# Altium schematic symbol library PROPIASchlib.SCHLIB: 224 symbols (part 1 of 2)
Pins are listed as number, name and electrical type; pins without a type are passive.

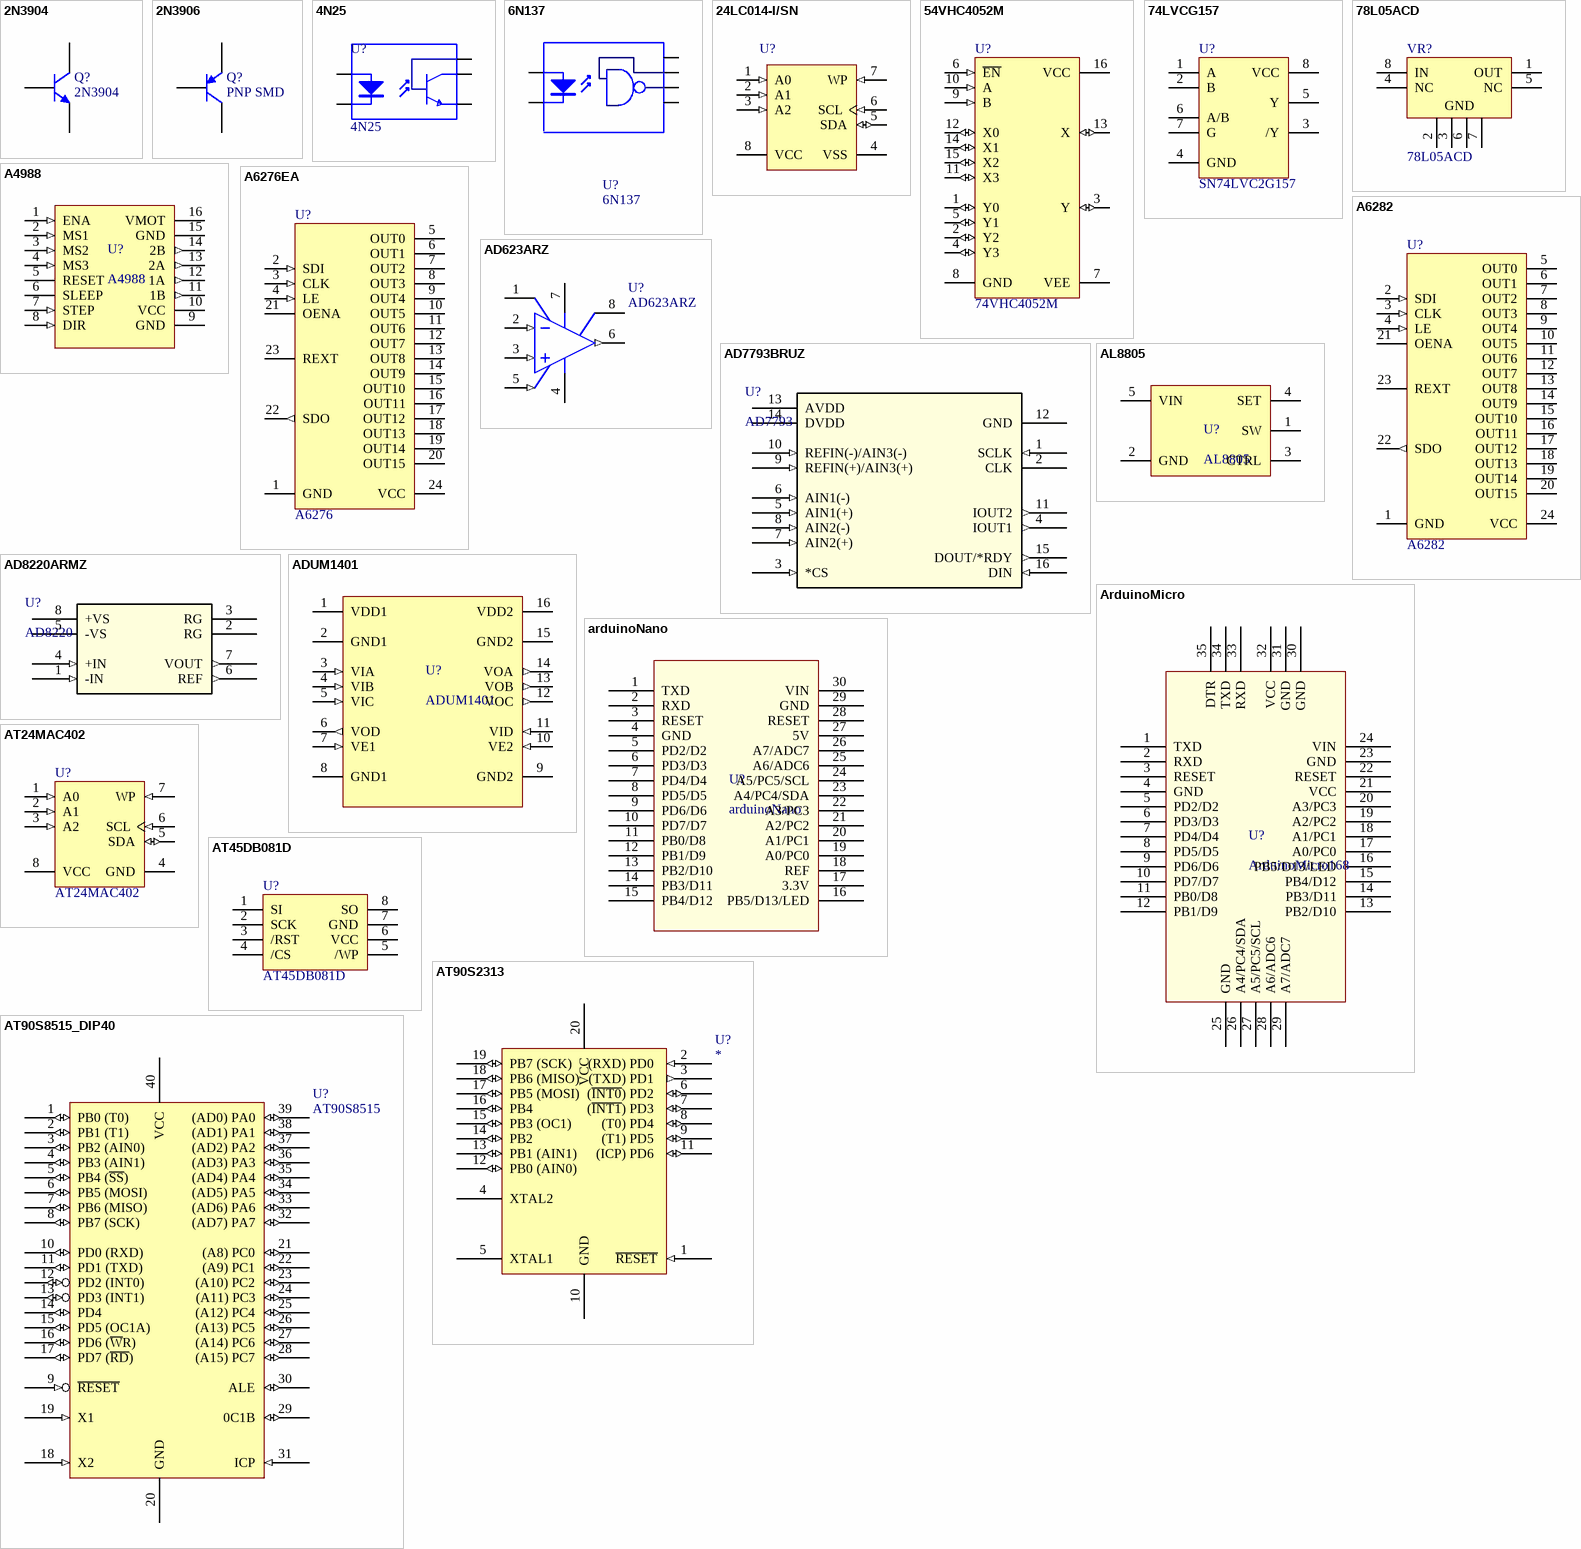
[diagram p0: symbols 2N3904 to AT90S8515_DIP40]

## 2N3904
designator Q?
NPN 45V 0.1 A SMD; Part: MMBT3904-7-F; Proveedor: Digikey; Published: 8-Jun-2000; LatestRevisionDate: 15-Jan-2003; LatestRevisionNote: PCB Footprint 'BCY-W3/D4.7' replaced; DatasheetDocument: 1997; PackageDocument: Sep-1998; PackageReference: TO-92A; Publisher: Altium Limited; Code_JEDEC: TO-92A; ComponentLink1Description: Manufacturer Link; ComponentLink1URL: http://www.fairchildsemi.com/; ComponentLink2Description: Datasheet; ComponentLink2URL: http://www.fairchildsemi.com/ds/2N%2F2N3904.pdf; Price: 0.12
simulation model 2N3904 (NPN)
signal-integrity model 2N3904
footprint NPN-PNP (Transistor)
pins: 1 E, 2 B, 3 C

## 2N3906
designator Q?, comment PNP SMD
Part: MMBT3906-FDICT-ND; Proveedor: Digikey; Published: 8-Jun-2000; LatestRevisionDate: 15-Jan-2003; LatestRevisionNote: PCB Footprint 'BCY-W3/D4.7' replaced; DatasheetDocument: 1997; PackageDocument: Sep-1998; PackageReference: TO-92A; Publisher: Altium Limited; Code_JEDEC: TO-92A; ComponentLink1Description: Manufacturer Link; ComponentLink1URL: http://www.fairchildsemi.com/; ComponentLink2Description: Datasheet; ComponentLink2URL: http://www.fairchildsemi.com/ds/2N%2F2N3906.pdf; Price: 0.12
simulation model 2N3906 (PNP)
signal-integrity model 2N3906
footprint NPN-PNP (Transistor)
pins: 1 E, 2 B, 3 C

## 4N25
designator U?
Part: 160-1300-5-ND; Price: 0.50
footprint DIP-6
pins: 1 A, 2 K, 4 E, 5 C, 6 B

## 6N137
designator U?
5 Pin Mini Flat Pack Optocoupler; Published: 24-Mar-1999; LatestRevisionDate: 04-Mar-2005; LatestRevisionNote: PCB Footprint replaced, Sch pins re-numbered.; DatasheetDocument: Apr-2004; PackageReference: SOP5(6); Publisher: Altium Limited
simulation model OPTOISO (Spice Subcircuit)
footprint DIP8
pins: 2 A "Anode", 3 K "Cathode", 5 GND (power), 6 VO "Emitter", 7 VCC (power) "Collector", 8 PWR (power)

## 24LC014-I/SN
designator U?
1Kbit, 400kHz, 2.5V, I2C Serial EEPROM, 8-Pin SOIC 150mil, Industrial Temperature; FirstPublished: 29-Jan-2009; DatasheetVersion: revF, Oct-2009; PackageVersion: revBB, Aug-2009; PackageReference: SOIC-SN8; Publisher: Altium Limited; PackageDescription: 8-Lead Plastic Small Outline (SN) - Narrow, 3.90mm Body [SOIC]; Supplier 1: Digi-Key; Supplier Part Number 1: 24LC014-I/SN-ND; Supplier 2: Farnell; Supplier Part Number 2: 1331314; Supplier 3: Newark; Supplier Part Number 3: 72C4393; Code_JEDEC: MS-012; Code_IPC: SOIC127P600-8; ComponentLink1Description: Datasheet; ComponentLink1URL: http://ww1.microchip.com/downloads/en/DeviceDoc/21809F.pdf; ComponentLink2Description: Packaging Specification; ComponentLink2URL: http://www.microchip.com/stellent/groups/techpub_sg/documents/packagingspec/en012702.pdf; ComponentLink3Description: Microchip.com Home; ComponentLink3URL: http://www.microchip.com/
footprint SOIC-SN8_N (SOIC, 8-Leads, Body 4.9x3.8mm, Pitch 1.27mm, IPC Medium Density)
footprint SOIC-SN8_L (SOIC, 8-Leads, Body 4.9x3.8mm, Pitch 1.27mm, IPC High Density)
footprint SOIC-SN8_M (SOIC, 8-Leads, Body 4.9x3.8mm, Pitch 1.27mm, IPC Low Density)
footprint SOIC-SN8_N (SOIC, 8-Leads, Body 4.9x3.8mm, Pitch 1.27mm, IPC Medium Density)
pins: 1 A0 (in), 2 A1 (in), 3 A2 (in), 4 VSS (power), 5 SDA (io), 6 SCL (in), 7 WP (in), 8 VCC (power)

## 54VHC4052M
designator U?, comment 74VHC4052M
Dual 4-Channel Analog Multiplexer; Published: 15-Apr-2002; LatestRevisionDate: 13-Apr-2006; LatestRevisionNote: IPC-7351 Footprint Added.; DatasheetVersion: May-1994; PackageVersion: 2000; PackageReference: M16A; Publisher: Altium Limited; PackageDescription: 16-Pin Small Outline Integrated Circuit 1.27 mm Pitch; Code_IPC: SOIC127P600-16; ComponentLink1Description: Manufacturer Link; ComponentLink1URL: http://www.national.com/; Price: 0.4148/50
footprint M16A_N (SOIC, 16-Leads, Body 9.9x3.9mm, Pitch 1.27mm, IPC Medium Density)
footprint M16A_L (SOIC, 16-Leads, Body 9.9x3.9mm, Pitch 1.27mm, IPC High Density)
footprint M16A_M (SOIC, 16-Leads, Body 9.9x3.9mm, Pitch 1.27mm, IPC Low Density)
3D model M16A (16-Pin Small Outline Integrated Circuit 1.27 mm Pitch)
pins: 1 Y0 (io), 2 Y2 (io), 3 Y (io), 4 Y3 (io), 5 Y1 (io), 6 ~{EN} (in), 7 VEE (power), 8 GND (power), 9 B (in), 10 A (in), 11 X3 (io), 12 X0 (io), 13 X (io), 14 X1 (io), 15 X2 (io), 16 VCC (power)

## 74LVCG157
designator U?, comment SN74LVC2G157
Single 2 :1 Mux; Proveedor: http://search.digikey.com/scripts/DkSearch/dksus.dll?Detail?name=296-13266-1-ND; Price: 1/0.48;100/0.27;1000/0.1596
footprint SOP-8
pins: 1 A, 2 B, 3 /Y, 4 GND (power), 5 Y, 6 A/B, 7 G, 8 VCC (power)

## 78L05ACD
designator VR?
IC 5V 0.1A SOIC8; Published: 24-Aug-2001; LatestRevisionDate: 13-Apr-2006; LatestRevisionNote: IPC-7351 Footprint Added.; DatasheetVersion: Feb-1999; PackageVersion: Dec-2002; PackageReference: SO8; Publisher: Altium Limited; PackageDescription: 8-Pin Small Outline Integrated Circuit 1.27 mm Pitch; Code_JEDEC: MS-012-AA; Code_IPC: SOIC127P600-8; ComponentLink1Description: Manufacturer Link; ComponentLink1URL: http://www.st.com/; Price: 0.3632/50
footprint SO8_N (SOIC, 8-Leads, Body 4.9x3.9mm, Pitch 1.27mm, IPC Medium Density)
footprint SO8_L (SOIC, 8-Leads, Body 4.9x3.9mm, Pitch 1.27mm, IPC High Density)
footprint SO8_M (SOIC, 8-Leads, Body 4.9x3.9mm, Pitch 1.27mm, IPC Low Density)
3D model SO8 (8-Pin Small Outline Integrated Circuit 1.27 mm Pitch)
footprint ad623
pins: 1 OUT (power), 2 GND (power), 3 GND (power), 4 NC, 5 NC, 6 GND (power), 7 GND (power), 8 IN (power)

## A4988
designator U?
DMOS Microstteping Driver Motor
footprint DIP16_A4988 (A4988 Driver Motor)
pins: 1 ENA (in), 2 MS1 (in), 3 MS2 (in), 4 MS3 (in), 5 RESET, 6 SLEEP, 7 STEP (in), 8 DIR (in), 9 GND (power), 10 VCC (power), 11 1B (out), 12 1A (out), 13 2A (out), 14 2B (out), 15 GND (power), 16 VMOT (power)

## A6276EA
designator U?, comment A6276
16 Bit Current Constant Driver; Manufacturer: Allegro; Class I: Interface; Published: 16 Enero 2004; Revision: July-2002: Re-released for DXP Platform.; Datasheet: Latest Revision: Sep-1998; Package Reference: DIP18; Publisher: Fernando Vasquez; Class II: Current Constant Driver
footprint DIP24S
footprint DIP-24
footprint DIP24S
pins: 1 GND (power), 2 SDI (in), 3 CLK (in), 4 LE (in), 5 OUT0 (oc), 6 OUT1 (oc), 7 OUT2 (oc), 8 OUT3 (oc), 9 OUT4 (oc), 10 OUT5 (oc), 11 OUT6 (oc), 12 OUT7 (oc), 13 OUT8 (oc), 14 OUT9 (oc), 15 OUT10 (oc), 16 OUT11 (oc), 17 OUT12 (oc), 18 OUT13 (oc), 19 OUT14 (oc), 20 OUT15 (oc), 21 OENA, 22 SDO (out), 23 REXT, 24 VCC (power)

## A6282
designator U?
16 Bit Current Constant Driver; Manufacturer: Allegro; Class I: Interface; Published: 16 Enero 2004; Revision: July-2002: Re-released for DXP Platform.; Datasheet: Latest Revision: Sep-1998; Package Reference: DIP18; Publisher: Fernando Vasquez; Class II: Current Constant Driver
footprint SOP24
pins: 1 GND (power), 2 SDI (in), 3 CLK (in), 4 LE (in), 5 OUT0 (oc), 6 OUT1 (oc), 7 OUT2 (oc), 8 OUT3 (oc), 9 OUT4 (oc), 10 OUT5 (oc), 11 OUT6 (oc), 12 OUT7 (oc), 13 OUT8 (oc), 14 OUT9 (oc), 15 OUT10 (oc), 16 OUT11 (oc), 17 OUT12 (oc), 18 OUT13 (oc), 19 OUT14 (oc), 20 OUT15 (oc), 21 OENA, 22 SDO (out), 23 REXT, 24 VCC (power)

## AD623ARZ
designator U?
Low-Cost, Low-Power Instrumentation Amplifier; Published: 8-Jun-2000; LatestRevisionDate: 13-Apr-2006; LatestRevisionNote: IPC-7351 Footprint Added.; DatasheetVersion: REV.D 1998; PackageVersion: 1998; PackageReference: R-8D; Publisher: Altium Limited; PackageDescription: 8-Pin Narrow Body Small Outline Integrated Circuit 1.27 mm Pitch; ComponentLink1Description: Manufacturer Link; ComponentLink1URL: http://www.analog.com/en/prod/0%2C2877%2CAD620%2C00.html; ComponentLink2Description: Datasheet; ComponentLink2URL: http://www.analog.com/UploadedFiles/Data_Sheets/897653854AD620_g.pdf; Price: 2.30092/250
3D model R-8D (8-Pin Narrow Body Small Outline Integrated Circuit 1.27 mm Pitch)
simulation model AD620B (SUBCKT)
footprint AD623
pins: 1 RG, 2 -IN (in), 3 +IN (in), 4 V- (power), 5 REF (in), 6 OUT (out), 7 V+ (power), 8 RG

## AD7793BRUZ
designator U?, comment AD7793
IC ADC 24BIT SIG-DEL 3CH 16TSSOP; Manufacturer_Part_Number: AD7793BRUZ; Part: AD7793BRUZ-ND; Vendor: Analog Devices Inc; Built_By: EMA_UL_Team; Value: Value; Type: Type; RefDes: RefDes; Price: 11.42
footprint RU_16
pins: 1 SCLK (in), 2 CLK, 3 *CS (in), 4 IOUT1 (out), 5 AIN1(+) (in), 6 AIN1(-) (in), 7 AIN2(+) (in), 8 AIN2(-) (in), 9 REFIN(+)/AIN3(+) (in), 10 REFIN(-)/AIN3(-) (in), 11 IOUT2 (out), 12 GND, 13 AVDD (power), 14 DVDD (power), 15 DOUT/*RDY (out), 16 DIN (in)

## AD8220ARMZ
designator U?, comment AD8220
Value: Value; Type: Type; RefDes: RefDes
footprint RM_8
pins: 1 -IN (in), 2 RG, 3 RG, 4 +IN (in), 5 -VS (power), 6 REF (out), 7 VOUT (out), 8 +VS (power)

## ADUM1401
designator U?
Quad-Channel Digital Isolators
pins: 1 VDD1 (power), 2 GND1 (power), 3 VIA (in), 4 VIB (in), 5 VIC (in), 6 VOD (out), 7 VE1 (in), 8 GND1 (power), 9 GND2 (power), 10 VE2 (in), 11 VID (in), 12 VOC (out), 13 VOB (out), 14 VOA (out), 15 GND2 (power), 16 VDD2 (power)

## AL8805
designator U?
HIGH EFFICIENCY 36V 1A BUCK LED DRIVER; Part: AL8805W5-7DICT-ND; Proveedor: Digikey; Price: 0.91
footprint SOT95P265X140-5N (SOT23, 5-Leads, Body 3,00x2,65mm, Pitch 0,95mm, IPC Medium Density)
pins: 1 SW, 2 GND (power), 3 CTRL, 4 SET, 5 VIN (power)

## ArduinoMicro
designator U?, comment ArduinoMicro168
ArduinoMicrp
footprint ArduinoMicro
pins: 1 TXD, 2 RXD, 3 RESET, 4 GND, 5 PD2/D2, 6 PD3/D3, 7 PD4/D4, 8 PD5/D5, 9 PD6/D6, 10 PD7/D7, 11 PB0/D8, 12 PB1/D9, 13 PB2/D10, 14 PB3/D11, 15 PB4/D12, 16 PB5/D13/LED, 17 A0/PC0, 18 A1/PC1, 19 A2/PC2, 20 A3/PC3, 21 VCC, 22 RESET, 23 GND, 24 VIN, 25 GND, 26 A4/PC4/SDA, 27 A5/PC5/SCL, 28 A6/ADC6, 29 A7/ADC7, 30 GND, 31 GND, 32 VCC, 33 RXD, 34 TXD, 35 DTR

## arduinoNano
designator U?
footprint Arduino nano (arduino nano)
pins: 1 TXD, 2 RXD, 3 RESET, 4 GND, 5 PD2/D2, 6 PD3/D3, 7 PD4/D4, 8 PD5/D5, 9 PD6/D6, 10 PD7/D7, 11 PB0/D8, 12 PB1/D9, 13 PB2/D10, 14 PB3/D11, 15 PB4/D12, 16 PB5/D13/LED, 17 3.3V, 18 REF, 19 A0/PC0, 20 A1/PC1, 21 A2/PC2, 22 A3/PC3, 23 A4/PC4/SDA, 24 A5/PC5/SCL, 25 A6/ADC6, 26 A7/ADC7, 27 5V, 28 RESET, 29 GND, 30 VIN

## AT24MAC402
designator U?
2KBIT 1MHZ 8SOIC MAC ADDRESS; Part: AT24MAC402-SSHM-TCT-ND; Proveedor: Digikey; FirstPublished: 29-Jan-2009; DatasheetVersion: revF, Oct-2009; PackageVersion: revBB, Aug-2009; PackageReference: SOIC-SN8; Publisher: Altium Limited; PackageDescription: 8-Lead Plastic Small Outline (SN) - Narrow, 3.90mm Body [SOIC]; Supplier 1: Digi-Key; Supplier Part Number 1: 24LC014-I/SN-ND; Supplier 2: Farnell; Supplier Part Number 2: 1331314; Supplier 3: Newark; Supplier Part Number 3: 72C4393; Code_JEDEC: MS-012; Code_IPC: SOIC127P600-8; ComponentLink1Description: Datasheet; ComponentLink1URL: http://ww1.microchip.com/downloads/en/DeviceDoc/21809F.pdf; ComponentLink2Description: Packaging Specification; ComponentLink2URL: http://www.microchip.com/stellent/groups/techpub_sg/documents/packagingspec/en012702.pdf; ComponentLink3Description: Microchip.com Home; ComponentLink3URL: http://www.microchip.com/; Price: 0.41
footprint SOIC-SN8_N (SOIC, 8-Leads, Body 4.9x3.8mm, Pitch 1.27mm, IPC Medium Density)
footprint SOIC-SN8_L (SOIC, 8-Leads, Body 4.9x3.8mm, Pitch 1.27mm, IPC High Density)
footprint SOIC-SN8_M (SOIC, 8-Leads, Body 4.9x3.8mm, Pitch 1.27mm, IPC Low Density)
pins: 1 A0 (in), 2 A1 (in), 3 A2 (in), 4 GND (power), 5 SDA (io), 6 SCL (in), 7 WP (in), 8 VCC (power)

## AT45DB081D
designator U?
8 Mbit Data Flash
footprint AD623
pins: 1 SI, 2 SCK, 3 /RST, 4 /CS, 5 /WP, 6 VCC (power), 7 GND (power), 8 SO

## AT90S2313
designator U?
Atmel Microcontroller - Library created by carel..  <www.mpfreezone.com>
footprint SOL-20
footprint DIP-20
pins: 1 ~{RESET} (in), 2 (RXD) PD0  (in), 3 (TXD) PD1  (out), 4 XTAL2, 5 XTAL1, 6 (~{INT0}) PD2  (io), 7 (~{INT1}) PD3  (io), 8 (T0) PD4  (io), 9 (T1) PD5  (io), 10 GND (power), 11 (ICP) PD6  (io), 12 PB0 (AIN0)  (io), 13 PB1 (AIN1)  (io), 14 PB2 (io), 15 PB3 (OC1)  (io), 16 PB4 (io), 17 PB5 (MOSI)  (io), 18 PB6 (MISO)  (io), 19 PB7 (SCK) (io), 20 VCC (power)

## AT90S8515_DIP40
designator U?, comment AT90S8515
Atmel Microcontroller
footprint DIP-40
pins: 1 PB0 (T0) (io), 2 PB1 (T1) (io), 3 PB2 (AIN0) (io), 4 PB3 (AIN1) (io), 5 PB4 (~{SS}) (io), 6 PB5 (MOSI) (io), 7 PB6 (MISO) (io), 8 PB7 (SCK) (io), 9 ~{RESET} (in), 10 PD0 (RXD) (io), 11 PD1 (TXD) (io), 12 PD2 (INT0) (io), 13 PD3 (INT1) (io), 14 PD4 (io), 15 PD5 (OC1A) (io), 16 PD6 (~{W}R) (io), 17 PD7 (~{RD}) (io), 18 X2 (in), 19 X1 (in), 20 GND (power), 21 (A8) PC0 (io), 22 (A9) PC1 (io), 23 (A10) PC2 (io), 24 (A11) PC3 (io), 25 (A12) PC4 (io), 26 (A13) PC5 (io), 27 (A14) PC6 (io), 28 (A15) PC7 (io), 29 0C1B (io), 30 ALE (io), 31 ICP (in), 32 (AD7) PA7 (io), 33 (AD6) PA6 (io), 34 (AD5) PA5 (io), 35 (AD4) PA4 (io), 36 (AD3) PA3 (io), 37 (AD2) PA2 (io), 38 (AD1) PA1 (io), 39 (AD0) PA0 (io), 40 VCC (power)

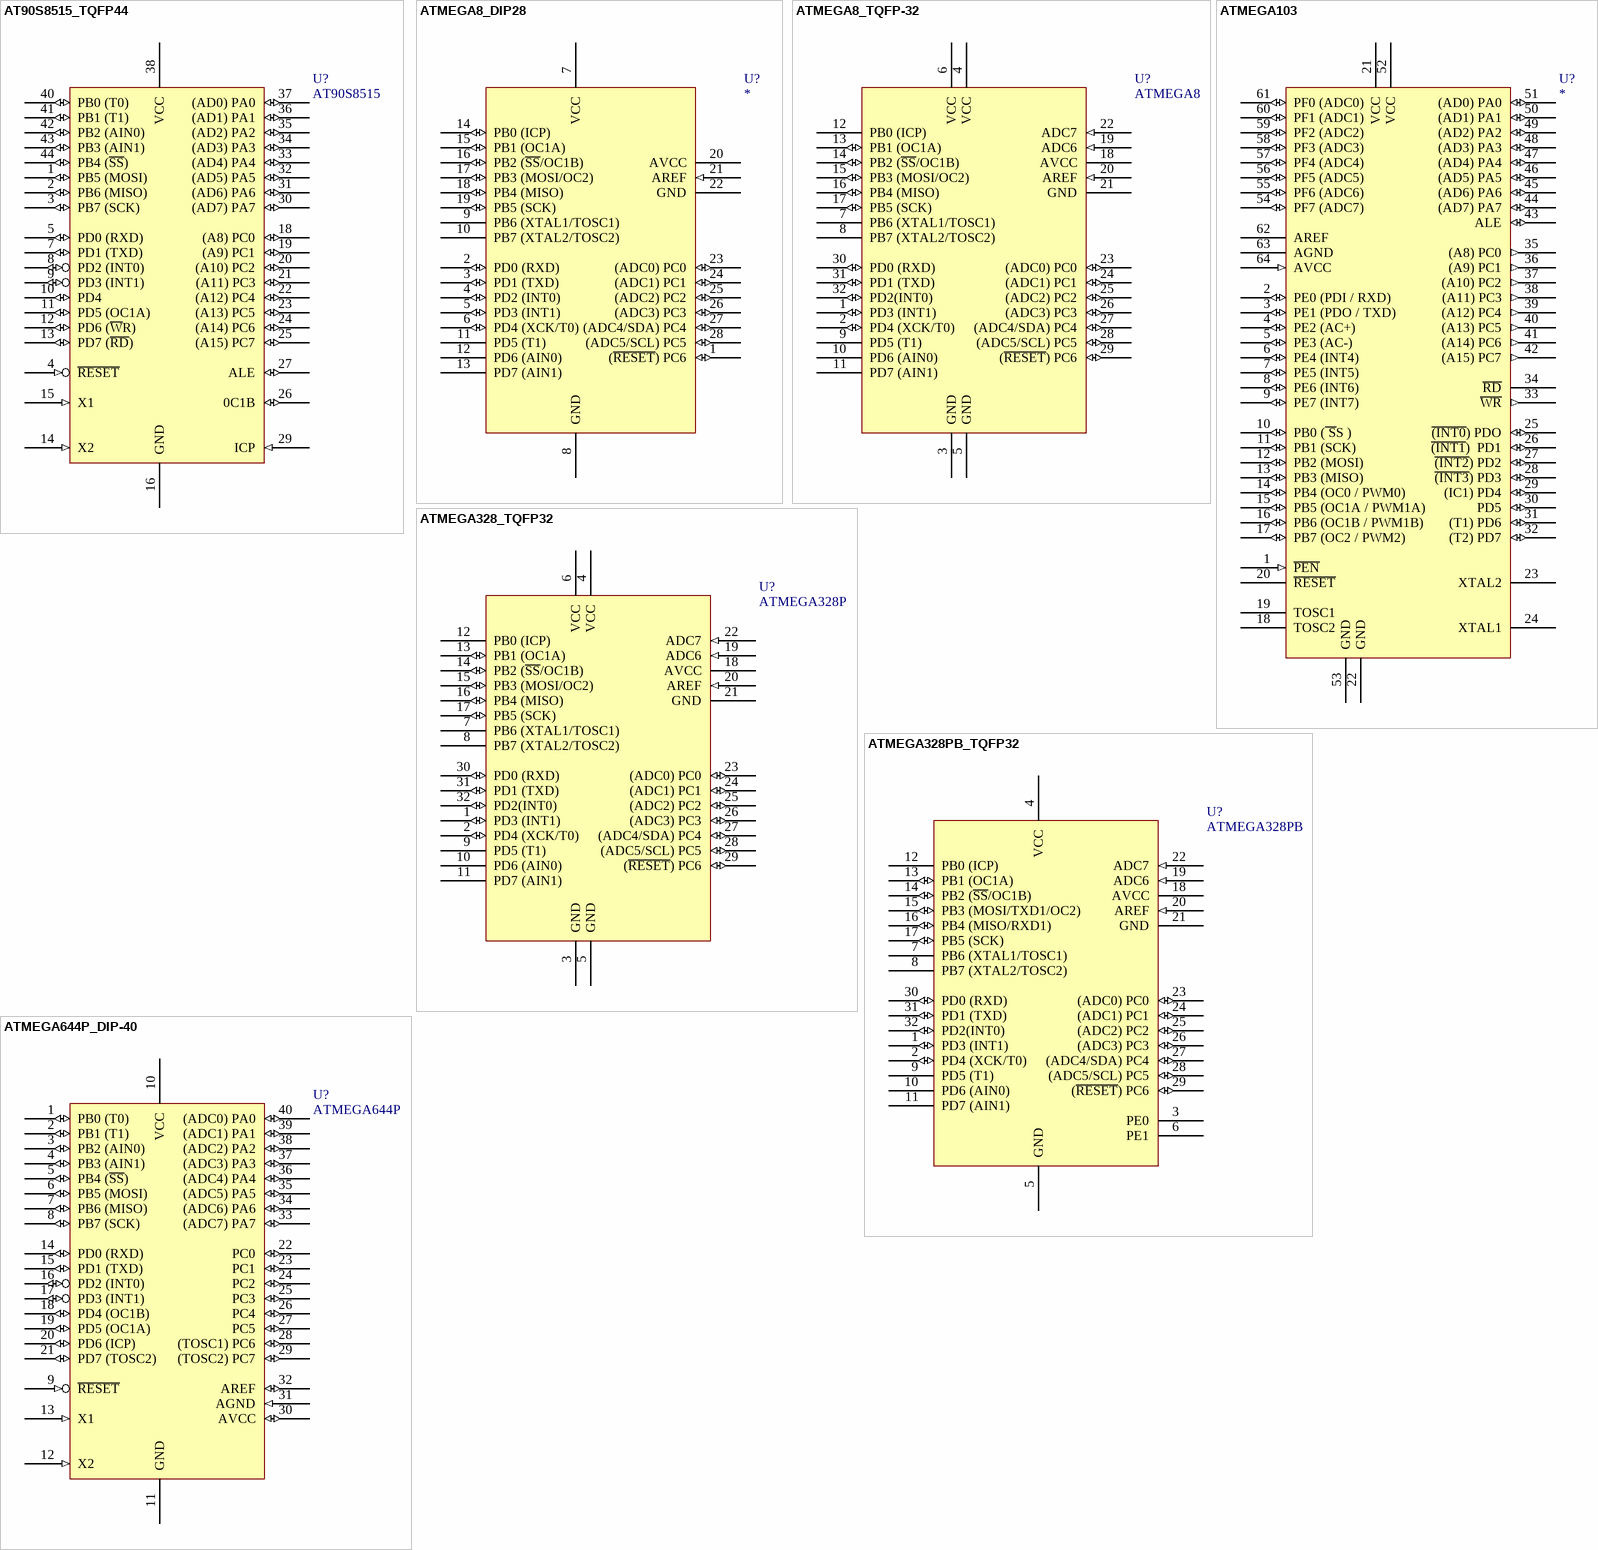
[diagram p1: symbols AT90S8515_TQFP44 to ATMEGA644P_DIP-40]

## AT90S8515_TQFP44
designator U?, comment AT90S8515
Atmel Microcontroller
footprint TQFP-44
pins: 1 PB5 (MOSI) (io), 2 PB6 (MISO) (io), 3 PB7 (SCK) (io), 4 ~{RESET} (in), 5 PD0 (RXD) (io), 7 PD1 (TXD) (io), 8 PD2 (INT0) (io), 9 PD3 (INT1) (io), 10 PD4 (io), 11 PD5 (OC1A) (io), 12 PD6 (~{W}R) (io), 13 PD7 (~{RD}) (io), 14 X2 (in), 15 X1 (in), 16 GND (power), 18 (A8) PC0 (io), 19 (A9) PC1 (io), 20 (A10) PC2 (io), 21 (A11) PC3 (io), 22 (A12) PC4 (io), 23 (A13) PC5 (io), 24 (A14) PC6 (io), 25 (A15) PC7 (io), 26 0C1B (io), 27 ALE (io), 29 ICP (in), 30 (AD7) PA7 (io), 31 (AD6) PA6 (io), 32 (AD5) PA5 (io), 33 (AD4) PA4 (io), 34 (AD3) PA3 (io), 35 (AD2) PA2 (io), 36 (AD1) PA1 (io), 37 (AD0) PA0 (io), 38 VCC (power), 40 PB0 (T0) (io), 41 PB1 (T1) (io), 42 PB2 (AIN0) (io), 43 PB3 (AIN1) (io), 44 PB4 (~{SS}) (io)

## ATMEGA8_DIP28
designator U?
Atmel Microcontroller
footprint DIP-28
pins: 1 (~{RESET}) PC6 (io), 2 PD0 (RXD) (io), 3 PD1 (TXD) (io), 4 PD2 (INT0) (io), 5 PD3 (INT1) (io), 6 PD4 (XCK/T0) (io), 7 VCC, 8 GND, 9 PB6 (XTAL1/TOSC1), 10 PB7 (XTAL2/TOSC2), 11 PD5 (T1), 12 PD6 (AIN0), 13 PD7 (AIN1), 14 PB0 (ICP) (io), 15 PB1 (OC1A) (io), 16 PB2 (~{SS}/OC1B) (io), 17 PB3 (MOSI/OC2) (io), 18 PB4 (MISO) (io), 19 PB5 (SCK) (io), 20 AVCC, 21 AREF (in), 22 GND, 23 (ADC0) PC0 (io), 24 (ADC1) PC1 (io), 25 (ADC2) PC2 (io), 26 (ADC3) PC3 (io), 27 (ADC4/SDA) PC4 (io), 28 (ADC5/SCL) PC5 (io)

## ATMEGA8_TQFP-32
designator U?, comment ATMEGA8
Atmel Microcontroller
footprint TQFP-32
pins: 1 PD3 (INT1) (io), 2 PD4 (XCK/T0) (io), 3 GND, 4 VCC (power), 5 GND (power), 6 VCC, 7 PB6 (XTAL1/TOSC1), 8 PB7 (XTAL2/TOSC2), 9 PD5 (T1), 10 PD6 (AIN0), 11 PD7 (AIN1), 12 PB0 (ICP), 13 PB1 (OC1A) (io), 14 PB2 (~{SS}/OC1B) (io), 15 PB3 (MOSI/OC2) (io), 16 PB4 (MISO) (io), 17 PB5 (SCK) (io), 18 AVCC, 19 ADC6 (in), 20 AREF (in), 21 GND, 22 ADC7 (in), 23 (ADC0) PC0 (io), 24 (ADC1) PC1 (io), 25 (ADC2) PC2 (io), 26 (ADC3) PC3 (io), 27 (ADC4/SDA) PC4 (io), 28 (ADC5/SCL) PC5 (io), 29 (~{RESET}) PC6 (io), 30 PD0 (RXD) (io), 31 PD1 (TXD) (io), 32 PD2(INT0) (io)

## ATMEGA103
designator U?
Atmel Microcontroller - Library created by carel..  <www.mpfreezone.com>
footprint TQFP-64
pins: 1 ~{PEN} (in), 2 PE0 (PDI / RXD) (io), 3 PE1 (PDO / TXD)  (io), 4 PE2 (AC+) (io), 5 PE3 (AC-) (io), 6 PE4 (INT4) (io), 7 PE5 (INT5) (io), 8 PE6 (INT6) (io), 9 PE7 (INT7) (io), 10 PB0 (~{ S}S ) (io), 11 PB1 (SCK) (io), 12 PB2 (MOSI) (io), 13 PB3 (MISO) (io), 14 PB4 (OC0 / PWM0) (io), 15 PB5 (OC1A / PWM1A) (io), 16 PB6 (OC1B / PWM1B) (io), 17 PB7 (OC2 / PWM2) (io), 18 TOSC2, 19 TOSC1, 20 ~{RESET}, 21 VCC (power), 22 GND (power), 23 XTAL2, 24 XTAL1, 25 ~{(INT0}) PDO (io), 26 ~{(INT1})  PD1 (io), 27 ~{(INT2}) PD2 (io), 28 ~{(INT3}) PD3 (io), 29 (IC1) PD4 (io), 30 PD5 (io), 31 (T1) PD6 (io), 32 (T2) PD7 (io), 33 ~{WR} (out), 34 ~{RD}, 35 (A8) PC0 (out), 36 (A9) PC1 (out), 37 (A10) PC2 (out), 38 (A11) PC3 (out), 39 (A12) PC4 (out), 40 (A13) PC5 (out), 41 (A14) PC6 (out), 42 (A15) PC7 (out), 43 ALE (io), 44 (AD7) PA7 (io), 45 (AD6) PA6 (io), 46 (AD5) PA5 (io), 47 (AD4) PA4 (io), 48 (AD3) PA3 (io), 49 (AD2) PA2 (io), 50 (AD1) PA1 (io), 51 (AD0) PA0 (io), 52 VCC (power), 53 GND (power), 54 PF7 (ADC7) (io), 55 PF6 (ADC6) (io), 56 PF5 (ADC5) (io), 57 PF4 (ADC4) (io), 58 PF3 (ADC3) (io), 59 PF2 (ADC2) (io), 60 PF1 (ADC1) (io), 61 PF0 (ADC0) (io), 62 AREF, 63 AGND, 64 AVCC (in)

## ATMEGA328_TQFP32
designator U?, comment ATMEGA328P
Atmell Microcontroller; Part: ATMEGA328P-AU-ND; Proveedor: Digikey; Price: 3.85
footprint TQFP-32
pins: 1 PD3 (INT1) (io), 2 PD4 (XCK/T0) (io), 3 GND, 4 VCC (power), 5 GND (power), 6 VCC, 7 PB6 (XTAL1/TOSC1), 8 PB7 (XTAL2/TOSC2), 9 PD5 (T1), 10 PD6 (AIN0), 11 PD7 (AIN1), 12 PB0 (ICP), 13 PB1 (OC1A) (io), 14 PB2 (~{SS}/OC1B) (io), 15 PB3 (MOSI/OC2) (io), 16 PB4 (MISO) (io), 17 PB5 (SCK) (io), 18 AVCC, 19 ADC6 (in), 20 AREF (in), 21 GND, 22 ADC7 (in), 23 (ADC0) PC0 (io), 24 (ADC1) PC1 (io), 25 (ADC2) PC2 (io), 26 (ADC3) PC3 (io), 27 (ADC4/SDA) PC4 (io), 28 (ADC5/SCL) PC5 (io), 29 (~{RESET}) PC6 (io), 30 PD0 (RXD) (io), 31 PD1 (TXD) (io), 32 PD2(INT0) (io)

## ATMEGA328PB_TQFP32
designator U?, comment ATMEGA328PB
Atmell Microcontroller; Part: ATMEGA328P-AU-ND; Proveedor: Digikey; Price: 3.85
footprint TQFP-32
pins: 1 PD3 (INT1) (io), 2 PD4 (XCK/T0) (io), 3 PE0, 4 VCC (power), 5 GND (power), 6 PE1, 7 PB6 (XTAL1/TOSC1), 8 PB7 (XTAL2/TOSC2), 9 PD5 (T1), 10 PD6 (AIN0), 11 PD7 (AIN1), 12 PB0 (ICP), 13 PB1 (OC1A) (io), 14 PB2 (~{SS}/OC1B) (io), 15 PB3 (MOSI/TXD1/OC2) (io), 16 PB4 (MISO/RXD1) (io), 17 PB5 (SCK) (io), 18 AVCC, 19 ADC6 (in), 20 AREF (in), 21 GND, 22 ADC7 (in), 23 (ADC0) PC0 (io), 24 (ADC1) PC1 (io), 25 (ADC2) PC2 (io), 26 (ADC3) PC3 (io), 27 (ADC4/SDA) PC4 (io), 28 (ADC5/SCL) PC5 (io), 29 (~{RESET}) PC6 (io), 30 PD0 (RXD) (io), 31 PD1 (TXD) (io), 32 PD2(INT0) (io)

## ATMEGA644P_DIP-40
designator U?, comment ATMEGA644P
Atmel Microcontroller; Price: 8.84
footprint DIP-40
pins: 1 PB0 (T0) (io), 2 PB1 (T1) (io), 3 PB2 (AIN0) (io), 4 PB3 (AIN1) (io), 5 PB4 (~{SS}) (io), 6 PB5 (MOSI) (io), 7 PB6 (MISO) (io), 8 PB7 (SCK) (io), 9 ~{RESET} (in), 10 VCC (power), 11 GND (power), 12 X2 (in), 13 X1 (in), 14 PD0 (RXD) (io), 15 PD1 (TXD) (io), 16 PD2 (INT0) (io), 17 PD3 (INT1) (io), 18 PD4 (OC1B) (io), 19 PD5 (OC1A) (io), 20 PD6 (ICP) (io), 21 PD7 (TOSC2) (io), 22 PC0 (io), 23 PC1 (io), 24 PC2 (io), 25 PC3 (io), 26 PC4 (io), 27 PC5 (io), 28 (TOSC1) PC6 (io), 29 (TOSC2) PC7 (io), 30 AVCC (io), 31 AGND (in), 32 AREF (io), 33 (ADC7) PA7 (io), 34 (ADC6) PA6 (io), 35 (ADC5) PA5 (io), 36 (ADC4) PA4 (io), 37 (ADC3) PA3 (io), 38 (ADC2) PA2 (io), 39 (ADC1) PA1 (io), 40 (ADC0) PA0 (io)

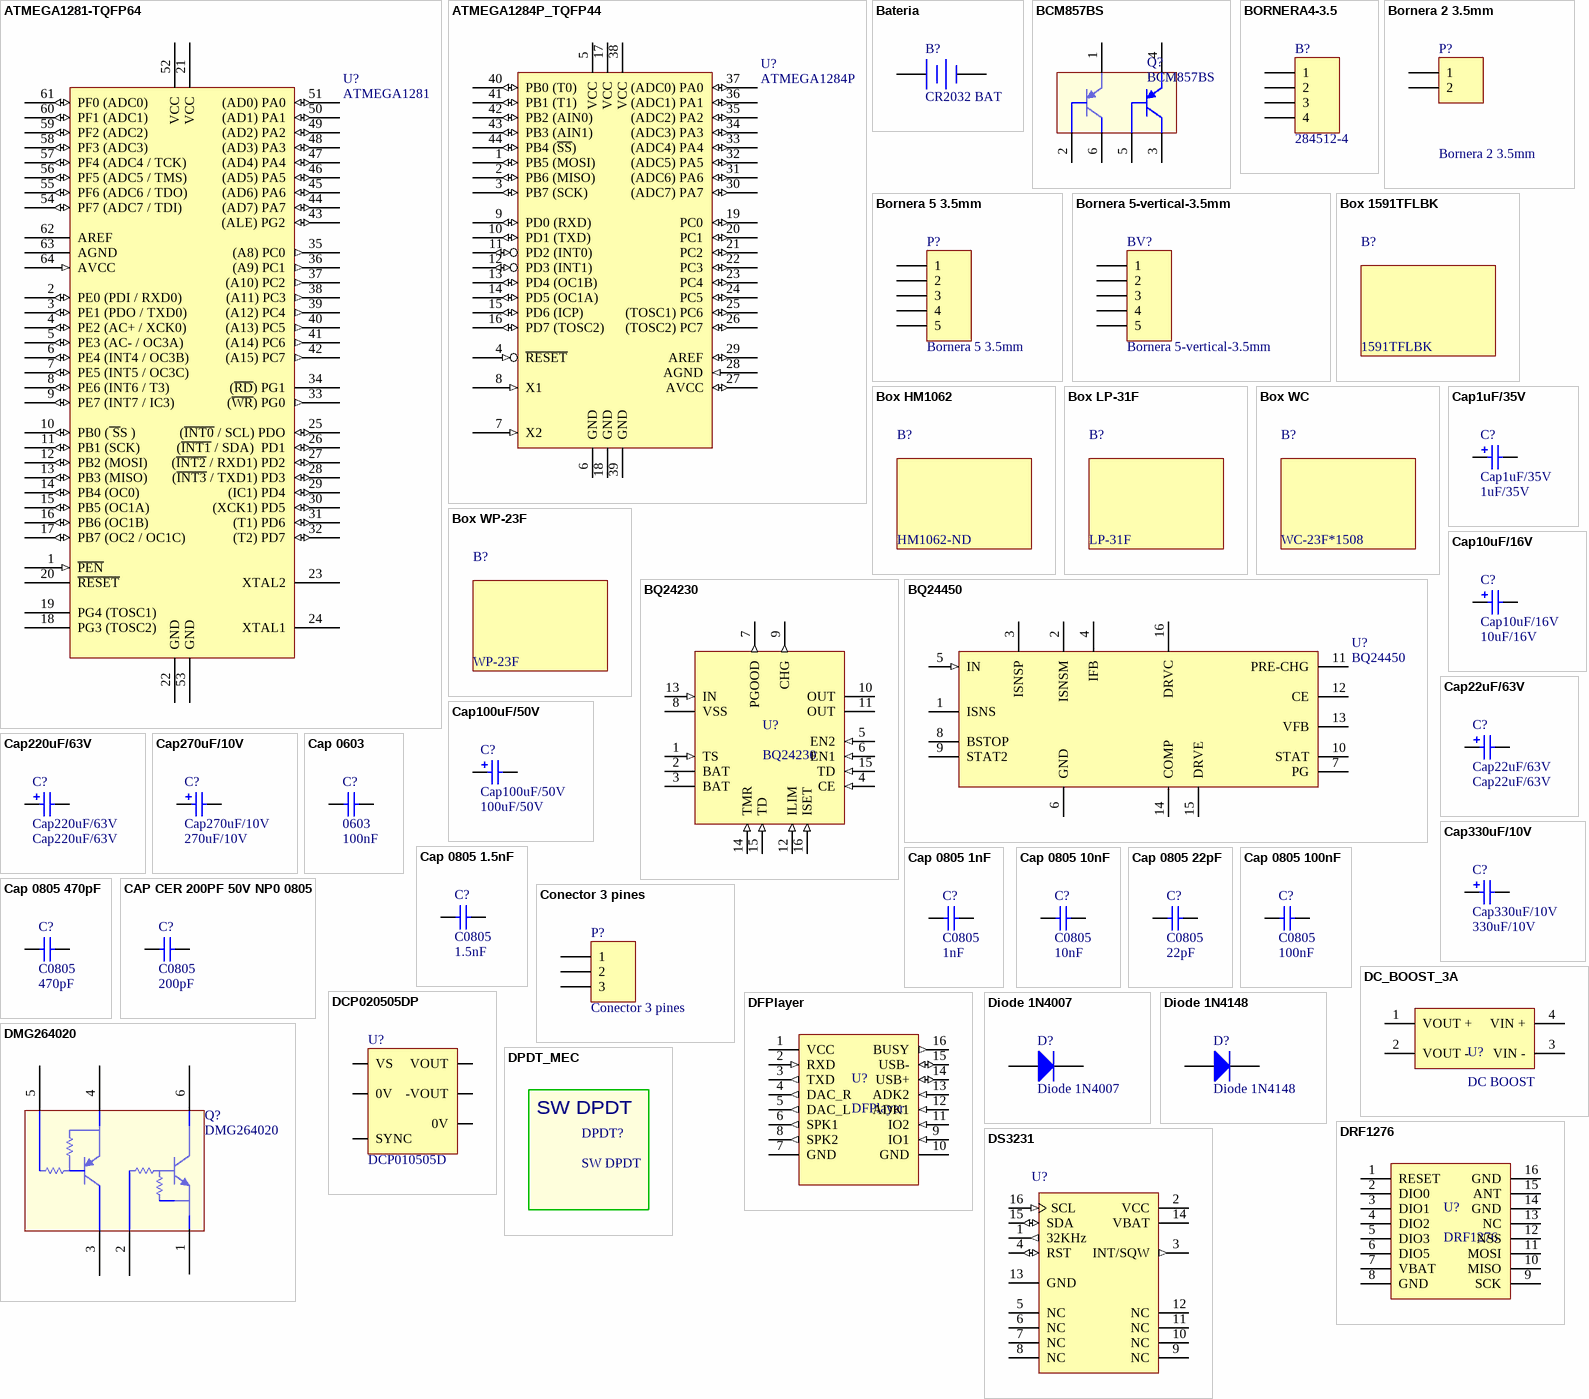
[diagram p2: symbols ATMEGA1281-TQFP64 to DS3231]

## ATMEGA1281-TQFP64
designator U?, comment ATMEGA1281
Atmel Microcontroller; Price: 12.2
footprint TQFP-64
pins: 1 ~{PEN} (in), 2 PE0 (PDI / RXD0) (io), 3 PE1 (PDO / TXD0)  (io), 4 PE2 (AC+ / XCK0) (io), 5 PE3 (AC- / OC3A) (io), 6 PE4 (INT4 / OC3B) (io), 7 PE5 (INT5 / OC3C) (io), 8 PE6 (INT6 / T3) (io), 9 PE7 (INT7 / IC3) (io), 10 PB0 (~{ S}S ) (io), 11 PB1 (SCK) (io), 12 PB2 (MOSI) (io), 13 PB3 (MISO) (io), 14 PB4 (OC0) (io), 15 PB5 (OC1A) (io), 16 PB6 (OC1B) (io), 17 PB7 (OC2 / OC1C) (io), 18 PG3 (TOSC2), 19 PG4 (TOSC1), 20 ~{RESET}, 21 VCC (power), 22 GND (power), 23 XTAL2, 24 XTAL1, 25 (~{INT0} / SCL) PDO (io), 26 (~{INT1} / SDA)  PD1 (io), 27 (~{INT2} / RXD1) PD2 (io), 28 (~{INT3} / TXD1) PD3 (io), 29 (IC1) PD4 (io), 30 (XCK1) PD5 (io), 31 (T1) PD6 (io), 32 (T2) PD7 (io), 33 (~{WR}) PG0 (out), 34 (~{RD}) PG1, 35 (A8) PC0 (out), 36 (A9) PC1 (out), 37 (A10) PC2 (out), 38 (A11) PC3 (out), 39 (A12) PC4 (out), 40 (A13) PC5 (out), 41 (A14) PC6 (out), 42 (A15) PC7 (out), 43 (ALE) PG2 (io), 44 (AD7) PA7 (io), 45 (AD6) PA6 (io), 46 (AD5) PA5 (io), 47 (AD4) PA4 (io), 48 (AD3) PA3 (io), 49 (AD2) PA2 (io), 50 (AD1) PA1 (io), 51 (AD0) PA0 (io), 52 VCC (power), 53 GND (power), 54 PF7 (ADC7 / TDI) (io), 55 PF6 (ADC6 / TDO) (io), 56 PF5 (ADC5 / TMS) (io), 57 PF4 (ADC4 / TCK) (io), 58 PF3 (ADC3) (io), 59 PF2 (ADC2) (io), 60 PF1 (ADC1) (io), 61 PF0 (ADC0) (io), 62 AREF, 63 AGND, 64 AVCC (in)

## ATMEGA1284P_TQFP44
designator U?, comment ATMEGA1284P
Atmel Microcontroller; Part: ATMEGA1284P-AU-ND; Proveedor: Digikey; Price: 8.94
footprint TQFP-44
pins: 1 PB5 (MOSI) (io), 2 PB6 (MISO) (io), 3 PB7 (SCK) (io), 4 ~{RESET} (in), 5 VCC, 6 GND, 7 X2 (in), 8 X1 (in), 9 PD0 (RXD) (io), 10 PD1 (TXD) (io), 11 PD2 (INT0) (io), 12 PD3 (INT1) (io), 13 PD4 (OC1B) (io), 14 PD5 (OC1A) (io), 15 PD6 (ICP) (io), 16 PD7 (TOSC2) (io), 17 VCC, 18 GND, 19 PC0 (io), 20 PC1 (io), 21 PC2 (io), 22 PC3 (io), 23 PC4 (io), 24 PC5 (io), 25 (TOSC1) PC6 (io), 26 (TOSC2) PC7 (io), 27 AVCC (io), 28 AGND (in), 29 AREF (io), 30 (ADC7) PA7 (io), 31 (ADC6) PA6 (io), 32 (ADC5) PA5 (io), 33 (ADC4) PA4 (io), 34 (ADC3) PA3 (io), 35 (ADC2) PA2 (io), 36 (ADC1) PA1 (io), 37 (ADC0) PA0 (io), 38 VCC (power), 39 GND (power), 40 PB0 (T0) (io), 41 PB1 (T1) (io), 42 PB2 (AIN0) (io), 43 PB3 (AIN1) (io), 44 PB4 (~{SS}) (io)

## Bateria
designator B?, comment CR2032 BAT
Zocalo bateria CR2032
footprint BATCR2032 (Bateria 20mm - Fernando Vásquez - 2010)
pins: 1 +, 2 -

## BCM857BS
designator Q?
PNP Array; Part: BCM857BS-7-FDICT-ND; Code - JEDEC: TO-92A; Published: 8-Jun-2000; Datasheet: Latest Revision: 1997; Publisher: Altium Limited; Price: 0.33; Proveedor: https://www.digikey.com/product-detail/en/diodes-incorporated/BCM857BS-7-F/BCM857BS-7-FDICT-ND/5801284
footprint SOT363 (SOT363, 6-Leads, Body 2,00x2,10mm, Pitch 0,65mm, IPC Medium Density)
pins: 1, 2, 3, 4, 5, 6

## BORNERA4-3.5
designator B?, comment 284512-4
TERM BLOCK HEADER  4POS R/A 3.5MM; Part: A98398-ND; Proveedor: Digikey; LatestRevisionDate: 17-Jul-2002; LatestRevisionNote: Re-released for DXP Platform.; Publisher: Altium Limited; Price: 0.15
signal-integrity model Connector
footprint BORNERA4-3.5
pins: 1, 2, 3, 4

## Bornera 2 3.5mm
designator P?
Header, 2-Pin; Part: A98396-ND; Proveedor: Digikey; LatestRevisionDate: 17-Jul-2002; LatestRevisionNote: Re-released for DXP Platform.; Publisher: Altium Limited; Price: 0.08
signal-integrity model Connector
footprint BORNERA2-3.5
pins: 1, 2

## Bornera 5 3.5mm
designator P?
Header, 5-Pin; Part: A98399-ND; Proveedor: Digikey; LatestRevisionDate: 17-Jul-2002; LatestRevisionNote: Re-released for DXP Platform.; Publisher: Altium Limited; Price: 0.20
signal-integrity model Connector
footprint BORNERA5-3.5 (Digikey A98399-ND)
pins: 1, 2, 3, 4, 5

## Bornera 5-vertical-3.5mm
designator BV?
Header, 5-Pin; Part: A98399-ND; Proveedor: Digikey; LatestRevisionDate: 17-Jul-2002; LatestRevisionNote: Re-released for DXP Platform.; Publisher: Altium Limited; Price: 0.20
signal-integrity model Connector
footprint BORNERA5-vertical
pins: 1, 2, 3, 4, 5

## Box 1591TFLBK
designator B?, comment 1591TFLBK  (mechanical)
Hammond Box 123 x 83x56 mm; Part: HM852-ND; Proveedor: Digikey; Price: 7.48

## Box HM1062
designator B?, comment HM1062-ND  (mechanical)
Hammond Box 50 x 50 x 20 mm; Proveedor: Digikey; Part: HM1062-ND; Price: 2.85

## Box LP-31F
designator B?, comment LP-31F  (mechanical)
Polycase Box 105.92 x 71.12 x 25.40 mm; Proveedor: Polycase; Part: LP-31F; Price: 3.39

## Box WC
designator B?, comment WC-23F*1508  (mechanical)
Polycase Box 115.06 x 89.92 x 55.12 mm; Proveedor: Polycase; Part: WC-23F*1508; Price: 12.59
footprint Box WC

## Box WP-23F
designator B?, comment WP-23F  (mechanical)
Polycase Box 115.06 x 89.92 x 55.12 mm; Part: WP-23F*15; Proveedor: Polycase; Price: 12.59
footprint Box WC

## BQ24230
designator U?
IC LI+ CHARGER PWR MGMT 16QFN; Price: 2.537; Digikey Part: 296-24667-1-ND
pins: 1 TS (in), 2 BAT, 3 BAT, 4 CE (in), 5 EN2 (in), 6 EN1 (in), 7 PGOOD (out), 8 VSS (power), 9 CHG (out), 10 OUT, 11 OUT, 12 ILIM (in), 13 IN (in), 14 TMR (in), 15 TD (in), 15 TD (in), 16 ISET (in)

## BQ24450
designator U?
Charge Controller for Lead_acid Batteries; Part: 296-24367-1-ND; Proveedor: Digikey; Price: 7.13
footprint SOP16
pins: 1 ISNS, 2 ISNSM, 3 ISNSP, 4 IFB, 5 IN (in), 6 GND (power), 7 PG, 8 BSTOP, 9 STAT2, 10 STAT (power), 11 PRE-CHG, 12 CE, 13 VFB, 14 COMP, 15 DRVE, 16 DRVC

## Cap1uF/35V
designator C?  value 1uF/35V
Cap Pol; Published: 8-Jun-2000; LatestRevisionDate: 17-Jul-2002; LatestRevisionNote: Re-released for DXP Platform.; PackageReference: C0805; Publisher: Altium Limited
simulation model CAP (Capacitor)
signal-integrity model Cap Pol
footprint CapFCV (EEE-FC1V1R0R)
pins: 1, 2
1 alternate drawing of the same symbol

## Cap10uF/16V
designator C?  value 10uF/16V
Cap Tant 10uF 16V 20% SMD; Part: 511-1473-1-ND; Proveedor: Digikey; Published: 8-Jun-2000; LatestRevisionDate: 17-Jul-2002; LatestRevisionNote: Re-released for DXP Platform.; PackageReference: C0805; Publisher: Altium Limited; Price: 0.65
simulation model CAP (Capacitor)
signal-integrity model Cap Pol
footprint C0805T
pins: 1, 2
1 alternate drawing of the same symbol

## Cap22uF/63V
designator C?
CAP ALUM 22UF 63V 20% RADIAL; Part: P5190-ND; Proveedor: Digikey; Published: 8-Jun-2000; LatestRevisionDate: 17-Jul-2002; LatestRevisionNote: Re-released for DXP Platform.; PackageReference: RB7.6-15; Publisher: Altium Limited; Price: 0.22/1;0.092/50;0.078/100; Value: Cap22uF/63V
simulation model CAP (Capacitor)
signal-integrity model Cap Pol
footprint Cap2mm
pins: 1, 2
1 alternate drawing of the same symbol

## Cap100uF/50V
designator C?  value 100uF/50V
Part: P5182-ND; Published: 8-Jun-2000; LatestRevisionDate: 17-Jul-2002; LatestRevisionNote: Re-released for DXP Platform.; PackageReference: RB7.6-15; Publisher: Altium Limited; Price: 0.33
simulation model CAP (Capacitor)
signal-integrity model Cap Pol
footprint CapPS
footprint Cap 100mil
pins: 1, 2
1 alternate drawing of the same symbol

## Cap220uF/63V
designator C?
Part: 565-1725-ND; Proveedor: Digikey; Published: 8-Jun-2000; LatestRevisionDate: 17-Jul-2002; LatestRevisionNote: Re-released for DXP Platform.; PackageReference: RB7.6-15; Publisher: Altium Limited; Price: 0.81/1;0.6/10;0.41/100; Value: Cap220uF/63V
simulation model CAP (Capacitor)
signal-integrity model Cap Pol
footprint CapPS
footprint Cap5mm
pins: 1, 2
1 alternate drawing of the same symbol

## Cap270uF/10V
designator C?  value 270uF/10V
Published: 8-Jun-2000; LatestRevisionDate: 17-Jul-2002; LatestRevisionNote: Re-released for DXP Platform.; PackageReference: RB7.6-15; Publisher: Altium Limited
simulation model CAP (Capacitor)
signal-integrity model Cap Pol
footprint CapPS
pins: 1, 2
1 alternate drawing of the same symbol

## Cap330uF/10V
designator C?  value 330uF/10V
Polarized Capacitor (Surface Mount); Part: 565-2207-1-ND; Proveedor: Digikey; Published: 8-Jun-2000; LatestRevisionDate: 17-Jul-2002; LatestRevisionNote: Re-released for DXP Platform.; PackageReference: C0805; Publisher: Altium Limited; Digikey: EMVE100ADA331MHA0G; Price: 0.86
simulation model CAP (Capacitor)
signal-integrity model Cap Pol
footprint Cap5RE (EMVE100ADA331MHA0G)
pins: 1, 2
1 alternate drawing of the same symbol

## Cap 0603
designator C?, comment 0603  value 100nF
Cap 100nF 25V X7R; Published: 8-Jun-2000; LatestRevisionDate: 17-Jul-2002; LatestRevisionNote: Re-released for DXP Platform.; PackageReference: C1206; Publisher: Altium Limited; Price: 0.10
simulation model CAP (Semiconductor Capacitor)
signal-integrity model Cap Semi
footprint C0603 (Capacitor0603 - Fernando Vásquez)
pins: 1, 2

## Cap 0805 1.5nF
designator C?, comment C0805  value 1.5nF
CAP CER 1500PF 50V C0G/NP0 0805; Part: 478-7953-2-ND; Proveedor: Digikey; Published: 8-Jun-2000; LatestRevisionDate: 17-Jul-2002; LatestRevisionNote: Re-released for DXP Platform.; PackageReference: C1206; Publisher: Altium Limited; Price: 0.68
simulation model CAP (Semiconductor Capacitor)
signal-integrity model Cap Semi
footprint C0805C
pins: 1, 2

## Cap 0805 1nF
designator C?, comment C0805  value 1nF
CAP CER 1000PF 50V X7R 0805; Part: 399-1147-1-ND; Proveedor: Digikey; Published: 8-Jun-2000; LatestRevisionDate: 17-Jul-2002; LatestRevisionNote: Re-released for DXP Platform.; PackageReference: C1206; Publisher: Altium Limited; Price: 0.1
simulation model CAP (Semiconductor Capacitor)
signal-integrity model Cap Semi
footprint C0805C
pins: 1, 2

## Cap 0805 10nF
designator C?, comment C0805  value 10nF
Cap 100nF 25V X7R; Part: 399-1158-1-ND; Proveedor: Digikey; Published: 8-Jun-2000; LatestRevisionDate: 17-Jul-2002; LatestRevisionNote: Re-released for DXP Platform.; PackageReference: C1206; Publisher: Altium Limited; Price: 0.1
simulation model CAP (Semiconductor Capacitor)
signal-integrity model Cap Semi
footprint C0805C
pins: 1, 2

## Cap 0805 22pF
designator C?, comment C0805  value 22pF
Cap 22pF; Part: 399-1113-1; Proveedor: Digikey; Published: 8-Jun-2000; LatestRevisionDate: 17-Jul-2002; LatestRevisionNote: Re-released for DXP Platform.; PackageReference: C1206; Publisher: Altium Limited; Price: 0.10
simulation model CAP (Semiconductor Capacitor)
signal-integrity model Cap Semi
footprint C0805C
pins: 1, 2

## Cap 0805 100nF
designator C?, comment C0805  value 100nF
Cap 100nF 25V X7R; Part: 399-1170-1-ND; Proveedor: Digikey; Published: 8-Jun-2000; LatestRevisionDate: 17-Jul-2002; LatestRevisionNote: Re-released for DXP Platform.; PackageReference: C1206; Publisher: Altium Limited; Price: 0.10
simulation model CAP (Semiconductor Capacitor)
signal-integrity model Cap Semi
footprint C0805C
pins: 1, 2

## Cap 0805 470pF
designator C?, comment C0805  value 470pF
CAP CER 470PF 50V C0G/NP0 0805; Part: 1276-1121-1-ND; Proveedor: Digikey; Published: 8-Jun-2000; LatestRevisionDate: 17-Jul-2002; LatestRevisionNote: Re-released for DXP Platform.; PackageReference: C1206; Publisher: Altium Limited; Price: 0.11
simulation model CAP (Semiconductor Capacitor)
signal-integrity model Cap Semi
footprint C0805C
pins: 1, 2

## CAP CER 200PF 50V NP0 0805
designator C?, comment C0805  value 200pF
Cap 200pF; Part: 478-10508-1-ND; Proveedor: Digikey; Published: 8-Jun-2000; LatestRevisionDate: 17-Jul-2002; LatestRevisionNote: Re-released for DXP Platform.; PackageReference: C1206; Publisher: Altium Limited; Price: 0.68
simulation model CAP (Semiconductor Capacitor)
signal-integrity model Cap Semi
footprint C0805C
pins: 1, 2

## Conector 3 pines
designator P?
Conector Fotocelda 220V; LatestRevisionDate: 17-Jul-2002; LatestRevisionNote: Re-released for DXP Platform.; Publisher: Altium Limited
signal-integrity model Connector
footprint Conector Fotocelda
pins: 1, 2, 3

## DC_BOOST_3A
designator U?, comment DC BOOST
DC DC Step-up ADJ Power Module 3A; Price: 7.50
footprint DC_BOOST (DC-DC Boost Module)
pins: 1 VOUT +, 2 VOUT -, 3 VIN -, 4 VIN +

## DCP020505DP
designator U?, comment DCP010505D
1W Conversor DC/DC no regulado; Digikey Part: DCP010505DBP-U-ND; Price: 11,77/1;9.89760/25;9.0500/100
footprint DIP14
pins: 1 VS (power), 2 0V (power), 5 0V (power), 6 VOUT (power), 7 -VOUT (power), 14 SYNC (power)

## DFPlayer
designator U?
Serial MP3 Module
pins: 1 VCC (power), 2 RXD (in), 3 TXD (out), 4 DAC_R (out), 5 DAC_L (out), 6 SPK1 (out), 7 GND (power), 8 SPK2 (out), 9 IO1 (in), 10 GND (power), 11 IO2 (in), 12 ADK1 (in), 13 ADK2 (in), 14 USB+ (io), 15 USB- (io), 16 BUSY (out)

## Diode 1N4007
designator D?
1 Amp General Purpose Rectifier; Published: 8-Jun-2000; LatestRevisionDate: 17-Jul-2002; LatestRevisionNote: Re-released for DXP Platform.; DatasheetVersion: 1998; PackageVersion: Aug-1999; PackageReference: DO-41; Publisher: Altium Limited; Code_JEDEC: DO-204-AL; ComponentLink1Description: Manufacturer Link; ComponentLink1URL: http://www.fairchildsemi.com/; ComponentLink2Description: Datasheet; ComponentLink2URL: http://www.fairchildsemi.com/ds/1N%2F1N4001.pdf
footprint DIO10.46-5.3x2.8 (Diode, Axial; Body 5.2 x 2.7 mm (LxDia. max), Lead Dia. 0.86 mm (max))
simulation model 1N4007 (DIODE)
signal-integrity model 1N4007
pins: 1 A, 2 K

## Diode 1N4148
designator D?
1N4148; Part: 1N4148WTPMSCT; Proveedor: Digikey; Published: 8-Jun-2000; LatestRevisionDate: 17-Jul-2002; LatestRevisionNote: Re-released for DXP Platform.; PackageVersion: Sep-1996; PackageReference: SMC; Publisher: Altium Limited; Code_JEDEC: DO-214-AB; Price: 0.14
simulation model DIODE (Diode)
signal-integrity model Diode
footprint 1N4148SMD (Creado por Fdo. Vásquez)
pins: 1 A, 2 K

## DMG264020
designator Q?
NPN y PNP Array; Part: DMG264020RCT-ND; Revision 1: 11-Jul-2000: SIM Model Added.; Revision 2: 17-Jul-2002: Re-released for DXP Platform.; Revision 3: 15-Jan-2003: PCB Footprint 'BCY-W3/D4.7' replaced; Code - JEDEC: TO-92A; Proveedor: Digikey; Published: 8-Jun-2000; Datasheet: Latest Revision: 1997; Package Reference: TO-92A; Publisher: Altium Limited; Price: 0.47; Proveedor: http://search.digikey.com/scripts/DkSearch/dksus.dll?Detail?name=XN0431200LCT-ND
footprint Mini6-G4
pins: 1, 2, 3, 4, 5, 6

## DPDT_MEC
designator DPDT?, comment SW DPDT
Forma SWICHT
footprint DPDT (Switch DPDT)

## DRF1276
designator U?
LORA Module
footprint RFM12B (Footprint RFM12B - Fernando Vásquez - 2010)
pins: 1 RESET, 2 DIO0, 3 DIO1, 4 DIO2, 5 DIO3, 6 DIO5, 7 VBAT (power), 8 GND (power), 9 SCK, 10 MISO, 11 MOSI, 12 NSS, 13 NC, 14 GND (power), 15 ANT, 16 GND (power)

## DS3231
designator U?
Extremely Accurate I2C-Integrated  RTC/TCXO/Crystal; FirstPublished: 29-Jan-2009; DatasheetVersion: revF, Oct-2009; PackageVersion: revBB, Aug-2009; PackageReference: SOIC-SN8; Publisher: Altium Limited; PackageDescription: 8-Lead Plastic Small Outline (SN) - Narrow, 3.90mm Body [SOIC]; Supplier 1: Digi-Key; Supplier Part Number 1: 24LC014-I/SN-ND; Supplier 2: Farnell; Supplier Part Number 2: 1331314; Supplier 3: Newark; Supplier Part Number 3: 72C4393; Code_JEDEC: MS-012; Code_IPC: SOIC127P600-8; ComponentLink1Description: Datasheet; ComponentLink1URL: http://ww1.microchip.com/downloads/en/DeviceDoc/21809F.pdf; ComponentLink2Description: Packaging Specification; ComponentLink2URL: http://www.microchip.com/stellent/groups/techpub_sg/documents/packagingspec/en012702.pdf; ComponentLink3Description: Microchip.com Home; ComponentLink3URL: http://www.microchip.com/
footprint SOP16
pins: 1 32KHz (out), 2 VCC (power), 3 INT/SQW (out), 4 RST (io), 5 NC, 6 NC, 7 NC, 8 NC, 9 NC, 10 NC, 11 NC, 12 NC, 13 GND (power), 14 VBAT (power), 15 SDA (io), 16 SCL (in)

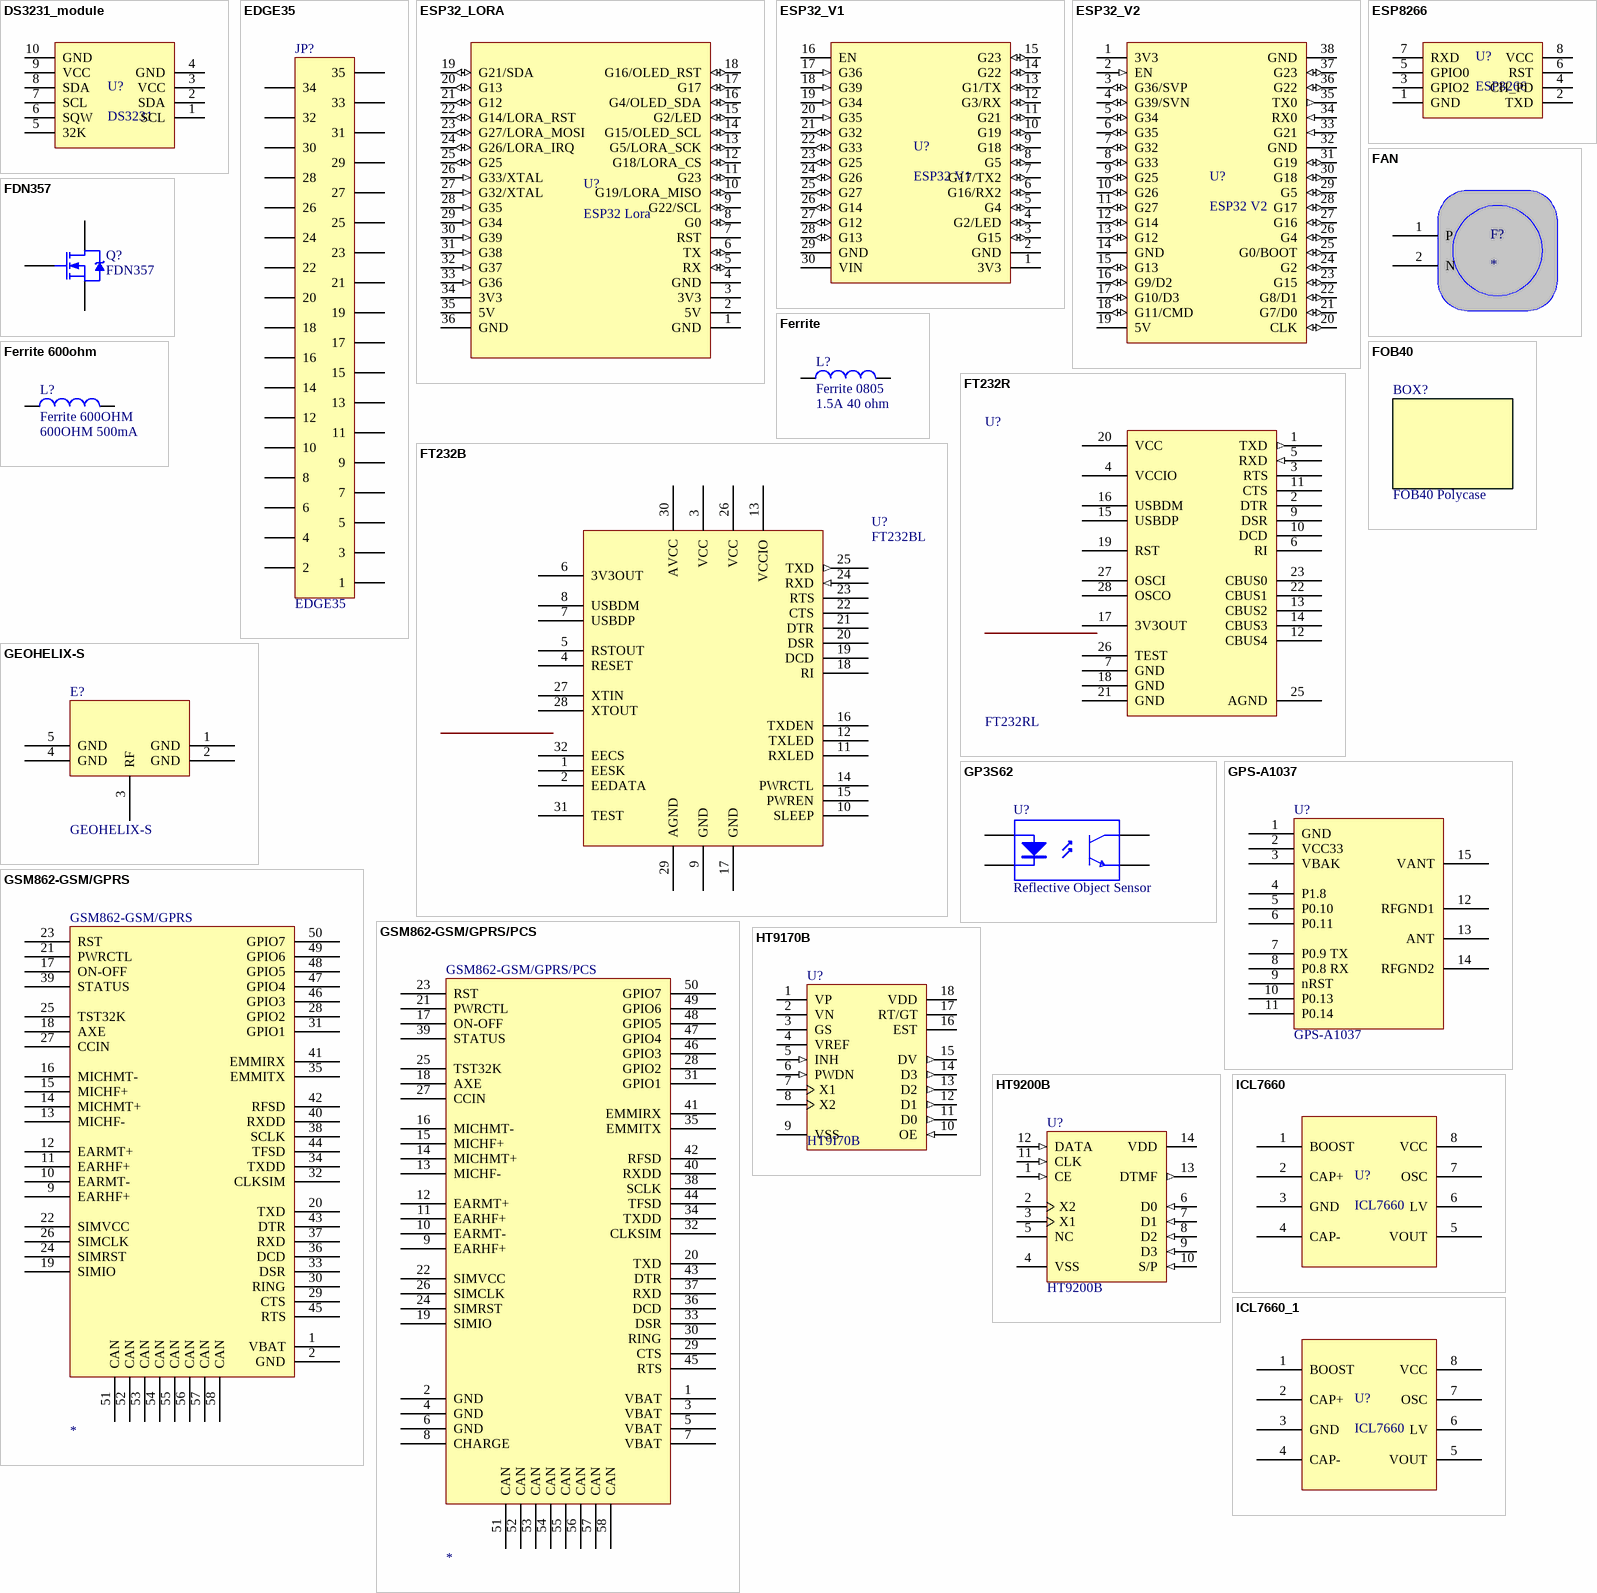
[diagram p3: symbols DS3231_module to ICL7660_1]

## DS3231_module
designator U?, comment DS3231
DS3231 Module; Price: 6
footprint DS3231 (DS3231 Module)
pins: 1 SCL, 2 SDA, 3 VCC (power), 4 GND (power), 5 32K, 6 SQW, 7 SCL, 8 SDA, 9 VCC (power), 10 GND (power)

## EDGE35
designator JP?
footprint EDGE35
footprint EDGE35
pins: 1, 2, 3, 4, 5, 6, 7, 8, 9, 10, 11, 12, 13, 14, 15, 16, 17, 18, 19, 20, 21, 22, 23, 24, 25, 26, 27, 28, 29, 30, 31, 32, 33, 34, 35

## ESP32_LORA
designator U?, comment ESP32 Lora
ESP 32 Lora Module WIFI
footprint ESP32_LORA
pins: 1 GND (power), 2 5V (power), 3 3V3 (power), 4 GND (power), 5 RX (io), 6 TX (io), 7 RST, 8 G0 (io), 9 G22/SCL (io), 10 G19/LORA_MISO (io), 11 G23 (io), 12 G18/LORA_CS (io), 13 G5/LORA_SCK (io), 14 G15/OLED_SCL (io), 15 G2/LED (io), 16 G4/OLED_SDA (io), 17 G17 (io), 18 G16/OLED_RST (io), 19 G21/SDA (io), 20 G13 (io), 21 G12 (io), 22 G14/LORA_RST (io), 23 G27/LORA_MOSI (io), 24 G26/LORA_IRQ (io), 25 G25 (io), 26 G33/XTAL (in), 27 G32/XTAL (in), 28 G35 (in), 29 G34 (in), 30 G39 (in), 31 G38 (in), 32 G37 (in), 33 G36 (in), 34 3V3 (power), 35 5V (power), 36 GND (power)

## ESP32_V1
designator U?, comment ESP32 V1
ESP32 V1 Module
footprint ESP32_V1
pins: 1 3V3 (power), 2 GND (power), 3 G15 (io), 4 G2/LED (io), 5 G4 (io), 6 G16/RX2 (io), 7 G17/TX2 (io), 8 G5 (io), 9 G18 (io), 10 G19 (io), 11 G21 (io), 12 G3/RX (io), 13 G1/TX (io), 14 G22 (io), 15 G23 (io), 16 EN, 17 G36 (in), 18 G39 (in), 19 G34 (in), 20 G35 (in), 21 G32 (io), 22 G33 (io), 23 G25 (io), 24 G26 (io), 25 G27 (io), 26 G14 (io), 27 G12 (io), 28 G13 (io), 29 GND (power), 30 VIN (power)

## ESP32_V2
designator U?, comment ESP32 V2
ESP32 DEVKIT V2
footprint ESP32_V2
pins: 1 3V3 (power), 2 EN (in), 3 G36/SVP (io), 4 G39/SVN (io), 5 G34 (io), 6 G35 (io), 7 G32 (io), 8 G33 (io), 9 G25 (io), 10 G26 (io), 11 G27 (io), 12 G14 (io), 13 G12 (io), 14 GND (power), 15 G13 (io), 16 G9/D2 (io), 17 G10/D3 (io), 18 G11/CMD (io), 19 5V (power), 20 CLK (io), 21 G7/D0 (io), 22 G8/D1 (io), 23 G15 (io), 24 G2 (io), 25 G0/BOOT (io), 26 G4 (io), 27 G16 (io), 28 G17 (io), 29 G5 (io), 30 G18 (io), 31 G19 (io), 32 GND (power), 33 G21 (in), 34 RX0 (in), 35 TX0 (out), 36 G22 (io), 37 G23 (io), 38 GND (power)

## ESP8266
designator U?
WIFI module
footprint ESP8266
pins: 1 GND (power), 2 TXD, 3 GPIO2, 4 CH_PD, 5 GPIO0, 6 RST, 7 RXD, 8 VCC (power)

## FAN
designator F?
Ventilador; Part: 259-1573-ND; Proveedor: Digikey; Price: 7.32/1;6.1/25;5.033/100
footprint BAT-2
pins: 1 P, 2 N

## FDN357
designator Q?
N-Channel Power MOSFET; Part: FDN357NCT-ND; Note: Pin 2 is electrically connected to pin 4.; Proveedor: Digikey; Published: 8-Jun-2000; LatestRevisionDate: 17-Jul-2002; LatestRevisionNote: Re-released for DXP Platform.; DatasheetDocument: PD-9.814; PackageReference: TO-220AB; Publisher: Altium Limited; Code_JEDEC: TO-220-AB; ComponentLink1Description: Manufacturer Link; ComponentLink1URL: http://www.irf.com/; Price: 0.56
simulation model IRF1010 (Spice Subcircuit)
footprint SOT23MOS
pins: 1 G, 2 D, 3 S

## Ferrite
designator L?, comment Ferrite 0805  value 1.5A 40 ohm
FERRITE 1.5A 40 OHM 0805 SMD; Part: 240-2389-1; Code_IEC: 1005; Proveedor: Digikey; Published: 8-Jun-2000; LatestRevisionDate: 17-Jul-2002; LatestRevisionNote: Re-released for DXP Platform.; PackageReference: 0402-A; Publisher: Altium Limited; Code_JEITA: 0402; Price: 0.10
footprint 0402-A (Chip Inductor; Body 1 x 0.5 mm (LxW typ))
footprint L0603 (Chip Inductor; Body 1.6 x 0.8 mm (LxW typ))
footprint 2012_Chip (2012 Chip; Chip Inductor; Body 2.0 x 1.2 mm (LxW typ))
footprint 2029 (Chip Inductor; Body 2 x 1.2 mm (LxW typ))
footprint 3261 (3216 Chip; Chip Inductor; Body 3.2 x 1.6 mm (LxW typ))
footprint 4564_Chip (4564 Chip; Chip Inductor; Body 4.5 x 6.4 mm (LxW typ))
simulation model INDUCTOR (Inductor)
signal-integrity model Inductor
footprint CR2012-0805
footprint L0805
pins: 1, 2

## Ferrite 600ohm
designator L?, comment Ferrite 600OHM  value 600OHM 500mA
FERRITE BEAD 600 OHM 0805 1LN; Part: 490-1040-1-ND; Code_IEC: 1005; Proveedor: Digikey; Published: 8-Jun-2000; LatestRevisionDate: 17-Jul-2002; LatestRevisionNote: Re-released for DXP Platform.; PackageReference: 0402-A; Publisher: Altium Limited; Code_JEITA: 0402; Price: 0.10
footprint 0402-A (Chip Inductor; Body 1 x 0.5 mm (LxW typ))
footprint L0603 (Chip Inductor; Body 1.6 x 0.8 mm (LxW typ))
footprint 2012_Chip (2012 Chip; Chip Inductor; Body 2.0 x 1.2 mm (LxW typ))
footprint 2029 (Chip Inductor; Body 2 x 1.2 mm (LxW typ))
footprint 3261 (3216 Chip; Chip Inductor; Body 3.2 x 1.6 mm (LxW typ))
footprint 4564_Chip (4564 Chip; Chip Inductor; Body 4.5 x 6.4 mm (LxW typ))
simulation model INDUCTOR (Inductor)
signal-integrity model Inductor
footprint CR2012-0805
footprint L0805
pins: 1, 2

## FOB40
designator BOX?, comment FOB40 Polycase
footprint FOB40 (FOB40 - Polycase - Fernando Vásquez - 2010)

## FT232B
designator U?, comment FT232BL
USB UART IC
footprint SOIC-28
pins: 1 EESK, 2 EEDATA, 3 VCC (power), 4 RESET, 5 RSTOUT, 6 3V3OUT, 7 USBDP, 8 USBDM, 9 GND (power), 10 SLEEP, 11 RXLED, 12 TXLED, 13 VCCIO, 14 PWRCTL, 15 PWREN, 16 TXDEN, 17 GND (power), 18 RI, 19 DCD, 20 DSR, 21 DTR, 22 CTS, 23 RTS, 24 RXD (in), 25 TXD (out), 26 VCC (power), 27 XTIN, 28 XTOUT, 29 AGND (power), 30 AVCC (power), 31 TEST, 32 EECS

## FT232R
designator U?, comment FT232RL
USB UART IC; Part: 768-1007-1-ND; Proveedor: Digikey; Price: 4.50
footprint SSOP-28 (FT232RL footprint)
pins: 1 TXD (out), 2 DTR, 3 RTS, 4 VCCIO, 5 RXD (in), 6 RI, 7 GND (power), 9 DSR, 10 DCD, 11 CTS, 12 CBUS4, 13 CBUS2, 14 CBUS3, 15 USBDP, 16 USBDM, 17 3V3OUT, 18 GND (power), 19 RST, 20 VCC (power), 21 GND (power), 22 CBUS1, 23 CBUS0, 25 AGND (power), 26 TEST, 27 OSCI, 28 OSCO

## GEOHELIX-S
designator E?
+24dB active GPS antenna
footprint GEOHELIX-S
pins: 1 GND (power), 2 GND (power), 3 RF, 4 GND (power), 5 GND (power)

## GP3S62
designator U?, comment Reflective Object Sensor
footprint GP3S62
pins: 1 A, 2 K, 3 C, 4 E

## GPS-A1037
designator U?
Full NMEA GPS Module
footprint GPS-A1037 (GPS footprint)
pins: 1 GND (power), 2 VCC33 (power), 3 VBAK, 4 P1.8, 5 P0.10, 6 P0.11, 7 P0.9 TX, 8 P0.8 RX, 9 nRST, 10 P0.13, 11 P0.14, 12 RFGND1 (power), 13 ANT, 14 RFGND2 (power), 15 VANT

## GSM862-GSM/GPRS
designator GSM862-GSM/GPRS
Molex 53748-0504
footprint GM862-GSM/GPRS
pins: 1 VBAT, 2 GND, 9 EARHF+, 10 EARMT-, 11 EARHF+, 12 EARMT+, 13 MICHF-, 14 MICHMT+, 15 MICHF+, 16 MICHMT-, 17 ON-OFF, 18 AXE, 19 SIMIO, 20 TXD, 21 PWRCTL, 22 SIMVCC, 23 RST, 24 SIMRST, 25 TST32K, 26 SIMCLK, 27 CCIN, 28 GPIO2, 29 CTS, 30 RING, 31 GPIO1, 32 CLKSIM, 33 DSR, 34 TXDD, 35 EMMITX, 36 DCD, 37 RXD, 38 SCLK, 39 STATUS, 40 RXDD, 41 EMMIRX, 42 RFSD, 43 DTR, 44 TFSD, 45 RTS, 46 GPIO3, 47 GPIO4, 48 GPIO5, 49 GPIO6, 50 GPIO7, 51 CAN, 52 CAN, 53 CAN, 54 CAN, 55 CAN, 56 CAN, 57 CAN (power), 58 CAN

## GSM862-GSM/GPRS/PCS
designator GSM862-GSM/GPRS/PCS
Molex 53748-0504
footprint GM862-GSM-PCS
pins: 1 VBAT, 2 GND, 3 VBAT, 4 GND, 5 VBAT, 6 GND, 7 VBAT, 8 CHARGE, 9 EARHF+, 10 EARMT-, 11 EARHF+, 12 EARMT+, 13 MICHF-, 14 MICHMT+, 15 MICHF+, 16 MICHMT-, 17 ON-OFF, 18 AXE, 19 SIMIO, 20 TXD, 21 PWRCTL, 22 SIMVCC, 23 RST, 24 SIMRST, 25 TST32K, 26 SIMCLK, 27 CCIN, 28 GPIO2, 29 CTS, 30 RING, 31 GPIO1, 32 CLKSIM, 33 DSR, 34 TXDD, 35 EMMITX, 36 DCD, 37 RXD, 38 SCLK, 39 STATUS, 40 RXDD, 41 EMMIRX, 42 RFSD, 43 DTR, 44 TFSD, 45 RTS, 46 GPIO3, 47 GPIO4, 48 GPIO5, 49 GPIO6, 50 GPIO7, 51 CAN, 52 CAN, 53 CAN, 54 CAN, 55 CAN, 56 CAN, 57 CAN (power), 58 CAN

## HT9170B
designator U?, comment HT9I70B
2.5-5 V Receptor DTMF; Package Information: Latest Revision: 1995; Published: 8-Jun-2000; Revision: 17-Jul-2002: Re-released for DXP Platform.; Datasheet: Latest Revision: Issue 3 August 1996; Package Reference: DIP18; Publisher: Fernando Vásquez
footprint DIP18
pins: 1 VP, 2 VN, 3 GS, 4 VREF, 5 INH (in), 6 PWDN (in), 7 X1, 8 X2, 9 VSS (power), 10 OE (in), 11 D0 (out), 12 D1 (out), 13 D2 (out), 14 D3 (out), 15 DV (out), 16 EST, 17 RT/GT, 18 VDD (power)

## HT9200B
designator U?
2.5-5 V Generador DTMF; Package Information: Latest Revision: 1995; Published: 8-Jun-2000; Revision: 17-Jul-2002: Re-released for DXP Platform.; Datasheet: Latest Revision: Issue 3 August 1996; Package Reference: DIP14; Publisher: Fernando Vásquez
footprint DIP14
pins: 1 CE (in), 2 X2, 3 X1, 4 VSS (power), 5 NC, 6 D0 (in), 7 D1 (in), 8 D2 (in), 9 D3 (in), 10 S/P (in), 11 CLK (in), 12 DATA (in), 13 DTMF (out), 14 VDD (power)

## ICL7660
designator U?
Super Voltage Converters; Part: ICL7660SCBAZ-TCT-ND; Proveedor: Digikey; Price: 1.88/1;1.40/25;1.19/100
footprint SOP-8
pins: 1 BOOST, 2 CAP+, 3 GND (power), 4 CAP-, 5 VOUT, 6 LV, 7 OSC, 8 VCC (power)

## ICL7660_1
designator U?, comment ICL7660
Super Voltage Converters; Part: ICL7660SCBAZ-TCT-ND; Proveedor: Digikey; Price: 1.88/1;1.40/25;1.19/100
footprint SOP-8
pins: 1 BOOST, 2 CAP+, 3 GND (power), 4 CAP-, 5 VOUT, 6 LV, 7 OSC, 8 VCC (power)

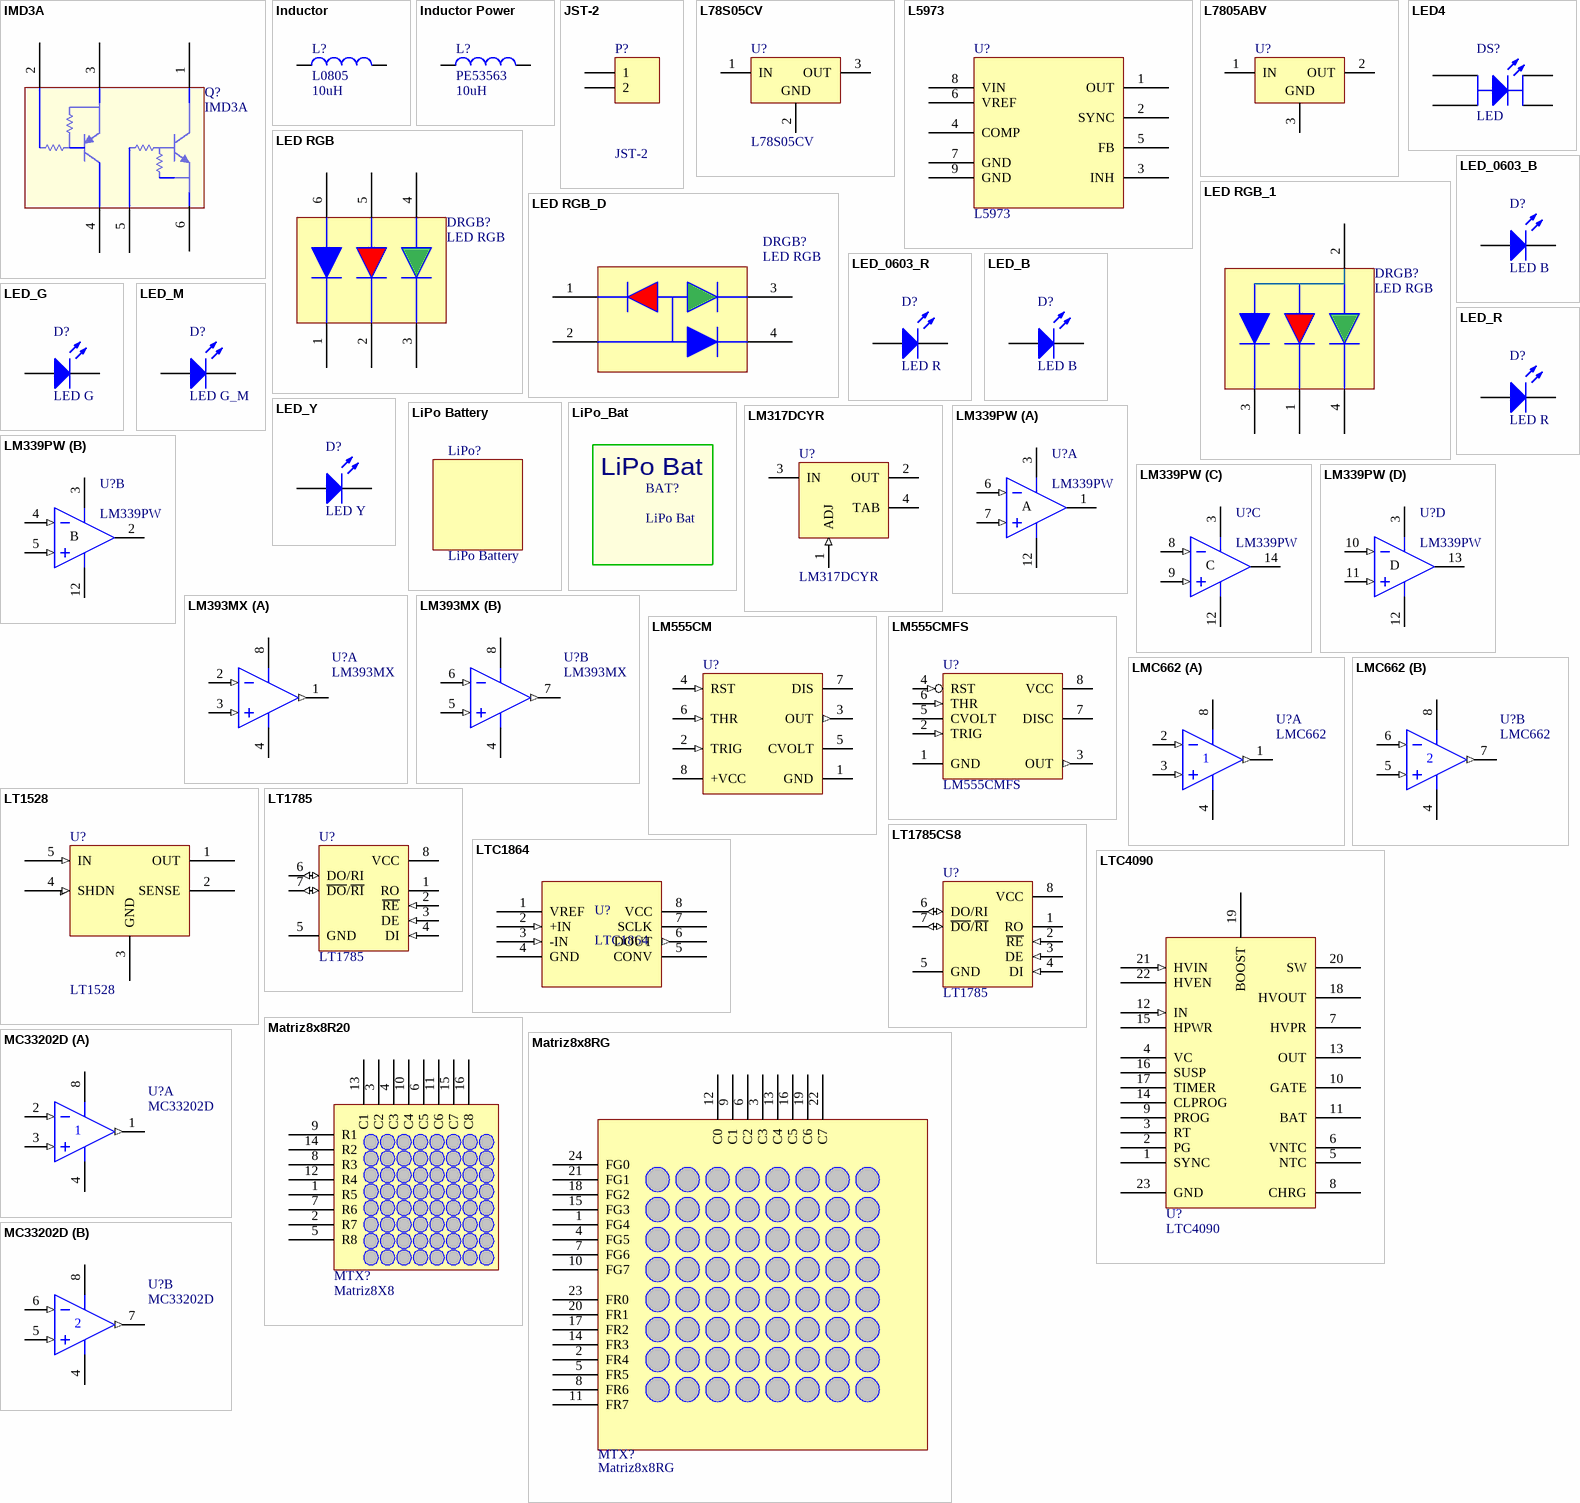
[diagram p4: symbols IMD3A to MC33202D]

## IMD3A
designator Q?
NPN y PNP Array; Part: IMD3AT108CT-ND; Revision 1: 11-Jul-2000: SIM Model Added.; Revision 2: 17-Jul-2002: Re-released for DXP Platform.; Revision 3: 15-Jan-2003: PCB Footprint 'BCY-W3/D4.7' replaced; Code - JEDEC: TO-92A; Proveedor: Digikey; Published: 8-Jun-2000; Datasheet: Latest Revision: 1997; Package Reference: TO-92A; Publisher: Altium Limited; Price: 0.58
footprint MINI6-G1
footprint Mini6-G1
pins: 1, 2, 3, 4, 5, 6

## Inductor
designator L?, comment L0805  value 10uH
Inductor; Part: 587-2045-1; Code_IEC: 1005; Proveedor: Digikey; Published: 8-Jun-2000; LatestRevisionDate: 17-Jul-2002; LatestRevisionNote: Re-released for DXP Platform.; PackageReference: 0402-A; Publisher: Altium Limited; Code_JEITA: 0402; Price: 0.08
footprint 0402-A (Chip Inductor; Body 1 x 0.5 mm (LxW typ))
footprint L0603 (Chip Inductor; Body 1.6 x 0.8 mm (LxW typ))
footprint 2012_Chip (2012 Chip; Chip Inductor; Body 2.0 x 1.2 mm (LxW typ))
footprint 2029 (Chip Inductor; Body 2 x 1.2 mm (LxW typ))
footprint 3261 (3216 Chip; Chip Inductor; Body 3.2 x 1.6 mm (LxW typ))
footprint 4564_Chip (4564 Chip; Chip Inductor; Body 4.5 x 6.4 mm (LxW typ))
simulation model INDUCTOR (Inductor)
signal-integrity model Inductor
footprint CR2012-0805
footprint L0805
pins: 1, 2

## Inductor Power
designator L?, comment PE53563  value 10uH
INDUCT PWR 25.9UH SMD; Part: 553-1382-ND; Code_IEC: 1005; Proveedor: Digikey; Published: 8-Jun-2000; LatestRevisionDate: 17-Jul-2002; LatestRevisionNote: Re-released for DXP Platform.; PackageReference: 0402-A; Publisher: Altium Limited; Code_JEITA: 0402; Price: 1.62
simulation model INDUCTOR (Inductor)
signal-integrity model Inductor
footprint LCI-50
pins: 1, 2

## JST-2
designator P?
JST, 2-Pin; Part: A98396-ND; Proveedor: Digikey; LatestRevisionDate: 17-Jul-2002; LatestRevisionNote: Re-released for DXP Platform.; Publisher: Altium Limited; Price: 0.08
signal-integrity model Connector
footprint JST-2 (Header; 2 Position; Right Angle)
pins: 1, 2

## L78S05CV
designator U?
IC REG LDO 5V 2A TO220AB; Part: 497-1468-5-ND; Note: Pin 2 is electrically connected to TAB; Published: 17-Jul-2002; DatasheetVersion: 1988; PackageReference: 221A-04; Publisher: Altium Limited; PackageDescription: TO, Thru-Hole, Vertical, Heatsink Mounted; 3 In-Line Leads; Pitch 2.54 mm; Code_JEDEC: TO-262-AA; ComponentLink1Description: Manufacturer Link; ComponentLink1URL: http://www.onsemi.com/site/products/taxonomy/0,4438,503,00.html; ComponentLink2Description: Datasheet; ComponentLink2URL: http://www.onsemi.com/pub/Collateral/MC78M00-D.PDF; Price: 0.74
footprint Model Name (Footprint not found)
pins: 1 IN (power), 2 GND (power), 3 OUT (power)

## L5973
designator U?
2.5A Switching Regulator; Price: 1/3.38;100/2.1875;1000/1.663; Proveedor: http://search.digikey.com/scripts/DkSearch/dksus.dll?Detail?name=497-4566-1-ND
footprint SOP-8
pins: 1 OUT, 2 SYNC, 3 INH, 4 COMP, 5 FB, 6 VREF, 7 GND (power), 8 VIN (power), 9 GND (power)

## L7805ABV
designator U?
Precision 1A Regulator; Note: Tab is connected to pin 3 (GND).; Published: 24-Aug-2001; LatestRevisionDate: 17-Jul-2002; LatestRevisionNote: Re-released for DXP Platform.; DatasheetVersion: Nov-1999; PackageVersion: Jun-1998; PackageReference: TO220ABN; Publisher: Altium Limited; PackageDescription: TO, Thru-Hole, Vertical, Heatsink Mounted; 3 In-Line Leads; Pitch 2.54 mm; Pin sequence 1, 3, 2; ComponentLink1Description: Manufacturer Link; ComponentLink1URL: http://www.st.com/; ComponentLink2Description: Datasheet; ComponentLink2URL: http://www.st.com/stonline/products/literature/ds/2144/l7805ab.pdf
footprint TO220ABN (TO, Thru-Hole, Vertical, Heatsink Mounted; 3 In-Line Leads; Pitch 2.54 mm; Pin sequence 1, 3, 2)
pins: 1 IN (power), 2 OUT (power), 3 GND (power)

## LED4
designator DS?, comment LED
Typical INFRARED GaAs LED; Published: 8-Jun-2000; Revision: July-2002: Re-released for DXP Platform.; Publisher: Altium Limited
simulation model LED0 (Diode)
footprint LED4
pins: 1 K, 2 A, 3 K, 4 A

## LED RGB
designator DRGB?
SunLED XSBBEMDGB99w
footprint DIP6mm
pins: 1, 2, 3, 4, 5, 6

## LED RGB_1
designator DRGB?, comment LED RGB
RGB_LED ANODO COMUN
footprint RGBLED-AC
pins: 1 R, 2 A, 3 B, 4 G

## LED RGB_D
designator DRGB?, comment LED RGB
RGB_LED ANODO COMUN; Part: CLVBA-FKA-CAEDH8BBB7A363CT-ND; Proveedor: Digikey; Price: 0.55
footprint LCC4
pins: 1 R, 2 A, 3 B, 4 G

## LED_0603_B
designator D?, comment LED B
LED 468NM BLUE CLEAR 0603 SMD; Part: LTST-C171TBKT; Proveedor: Digikey; Published: 8-Jun-2000; LatestRevisionDate: 17-Jul-2002; LatestRevisionNote: Re-released for DXP Platform.; PackageVersion: Feb-2002; PackageReference: 3.2X1.6X1.1; Publisher: Altium Limited; Price: 0.44
simulation model LED2 (Diode)
footprint Diode0603 (Diodo 0603 - Daniel Solis)
pins: 1 A, 2 K

## LED_0603_R
designator D?, comment LED R
LED 468NM RED CLEAR 0603 SMD; Part: LTST-C171TBKT; Proveedor: Digikey; Published: 8-Jun-2000; LatestRevisionDate: 17-Jul-2002; LatestRevisionNote: Re-released for DXP Platform.; PackageVersion: Feb-2002; PackageReference: 3.2X1.6X1.1; Publisher: Altium Limited; Price: 0.44
simulation model LED2 (Diode)
footprint Diode0603 (Diodo 0603 - Daniel Solis)
pins: 1 A, 2 K

## LED_B
designator D?, comment LED B
LED 468NM BLUE CLEAR 0805 SMD; Part: LTST-C171TBKT; Proveedor: Digikey; Published: 8-Jun-2000; LatestRevisionDate: 17-Jul-2002; LatestRevisionNote: Re-released for DXP Platform.; PackageVersion: Feb-2002; PackageReference: 3.2X1.6X1.1; Publisher: Altium Limited; Price: 0.44
footprint DSO-F2/D6.1 (SMT LED; 2 Flat Leads)
simulation model LED2 (Diode)
pins: 1 A, 2 K

## LED_G
designator D?, comment LED G
LED 2X3MM 565NM GRN WTR CLR SMD; Part: 67-1339-1; Proveedor: Digikey; Published: 8-Jun-2000; LatestRevisionDate: 17-Jul-2002; LatestRevisionNote: Re-released for DXP Platform.; PackageVersion: Feb-2002; PackageReference: 3.2X1.6X1.1; Publisher: Altium Limited; Price: 0.57
simulation model LED2 (Diode)
footprint LED_SML-LX
pins: 1 A, 2 K

## LED_M
designator D?, comment LED G_M
LED GRN T1 MODULAR CLEAR LENS; Part: CMC01G-ND; Proveedor: Digikey; Published: 8-Jun-2000; LatestRevisionDate: 17-Jul-2002; LatestRevisionNote: Re-released for DXP Platform.; PackageVersion: Feb-2002; PackageReference: 3.2X1.6X1.1; Publisher: Altium Limited; Price: 1.08
simulation model LED2 (Diode)
footprint LED_M
pins: 1 A, 2 K

## LED_R
designator D?, comment LED R
LED 2X3MM 635NM RED WTR CLR SMD; Part: 67-1338-1; Proveedor: Digikey; Published: 8-Jun-2000; LatestRevisionDate: 17-Jul-2002; LatestRevisionNote: Re-released for DXP Platform.; PackageVersion: Feb-2002; PackageReference: 3.2X1.6X1.1; Publisher: Altium Limited; Price: 0.60
simulation model LED2 (Diode)
footprint LED_SML-LX
pins: 1 A, 2 K